# Altium integrated library Altera MAX 7000AE.IntLib: 310 symbols (part 13 of 22)
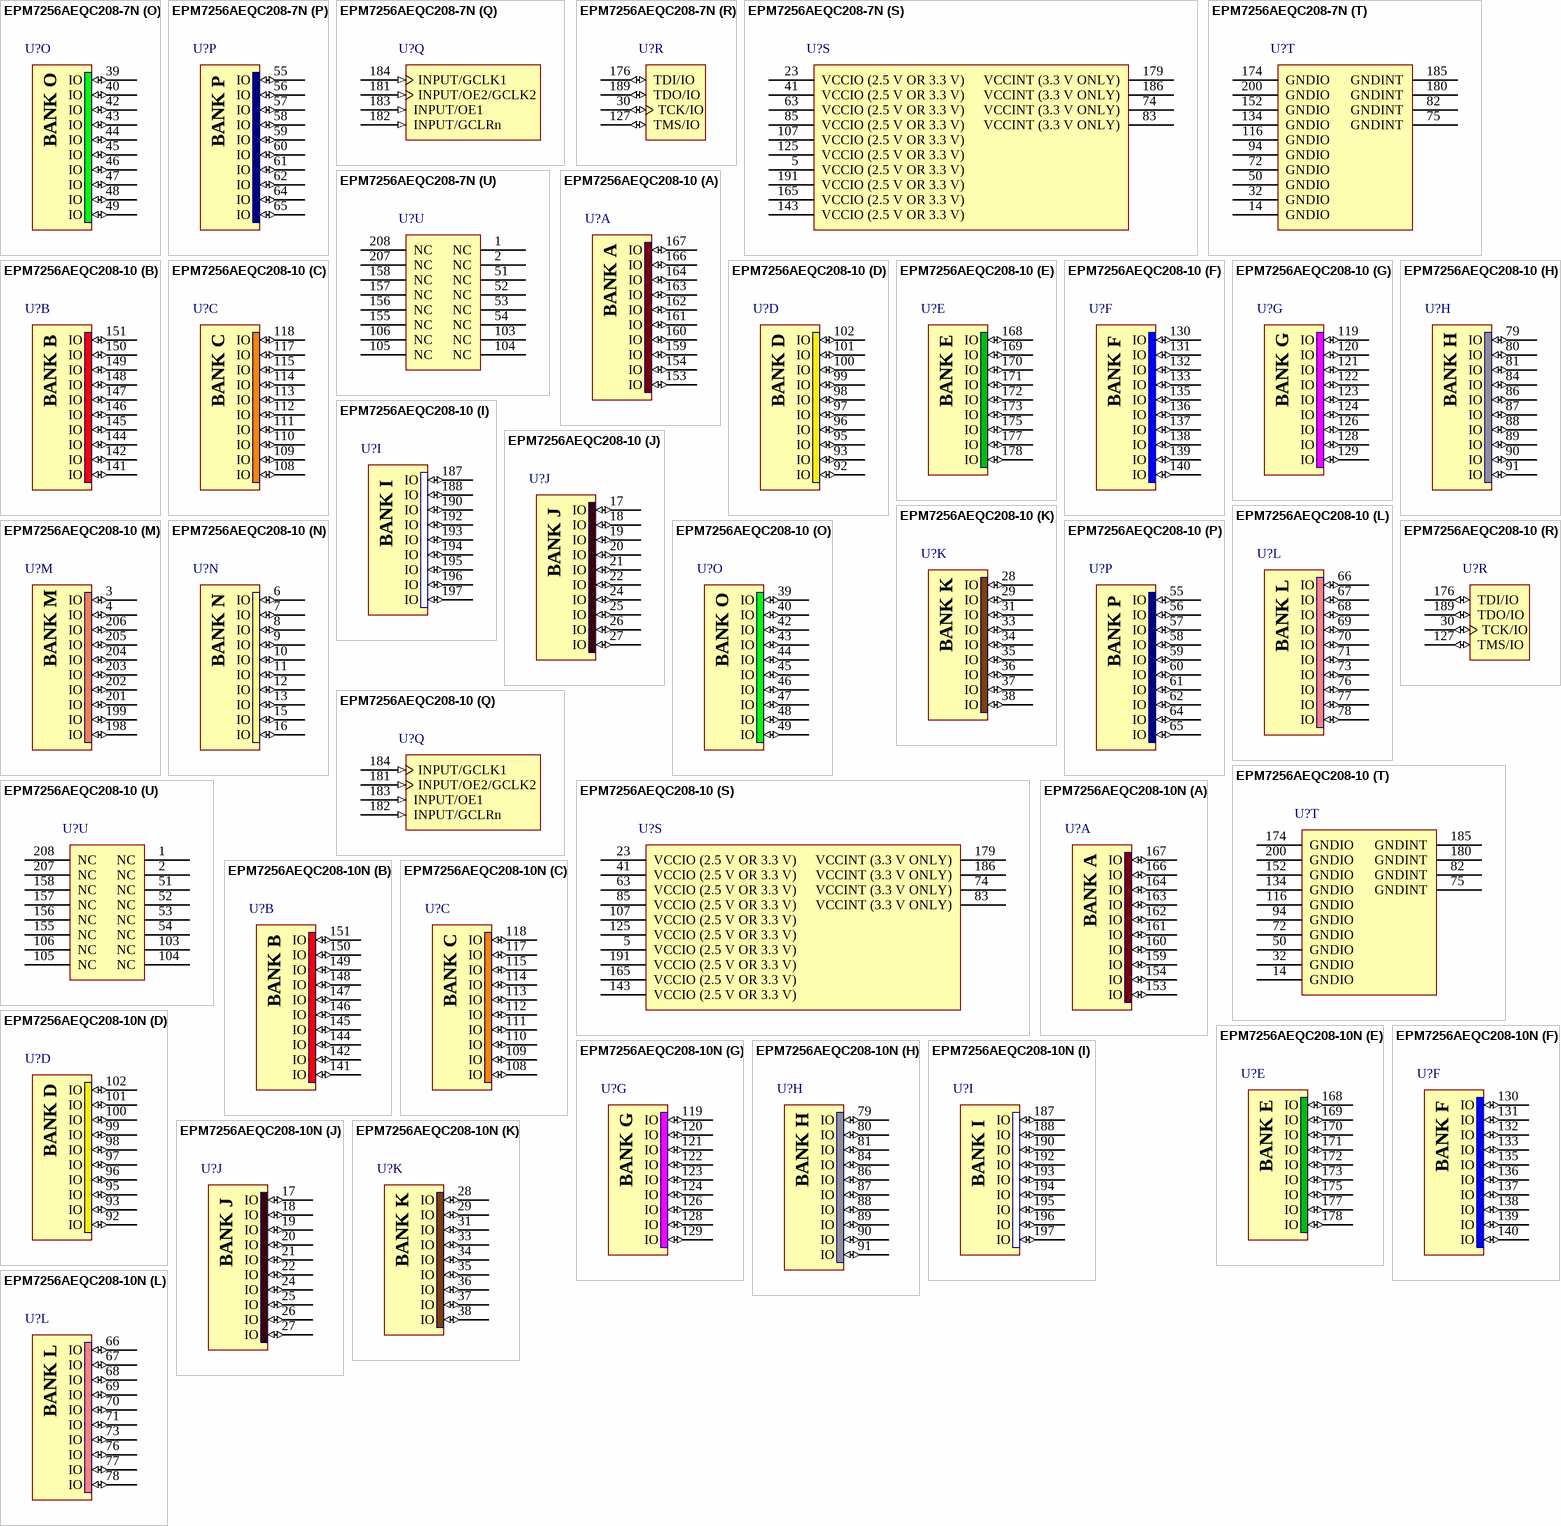
[diagram p133: symbols EPM7256AEQC208-7N to EPM7256AEQC208-10N]

## EPM7256AEQC208-10
designator U?
MAX 7000AE 3.3V CPLD, 256 Macrocells, 208-Pin PQFP, Speed Grade 10, Commercial Grade; Published: 23-Sep-2002; LatestRevisionDate: 13-Apr-2006; LatestRevisionNote: IPC-7351 Footprint Added.; DatasheetVersion: ver4.5, Sep-2003; PackageVersion: ver14.3, Jul-2006; PackageReference: PQFP208; Publisher: Altium Limited; PackageDescription: 208-Pin Plastic Quad Flat Pack (PQFP208); Code_JEDEC: MS-029-FA-1; ComponentLink1Description: Manufacturer Link; ComponentLink1URL: http://www.altera.com/products/devices/max7k/m7k-index.html; ComponentLink2Description: Datasheet; ComponentLink2URL: http://www.altera.com/literature/ds/m7000a.pdf; ComponentLink3Description: Packaging Specification; ComponentLink3URL: http://www.altera.com/literature/ds/dspkg.pdf
footprint PQFP208_N (Shrink QFP, 208-Leads, Body 28x28mm, Pitch 0.5mm, IPC Medium Density)
footprint PQFP208_L (Shrink QFP, 208-Leads, Body 28x28mm, Pitch 0.5mm, IPC High Density)
footprint PQFP208_M (Shrink QFP, 208-Leads, Body 28x28mm, Pitch 0.5mm, IPC Low Density)
3D model EPM7256AE-PQFP208 (208-Pin Plastic Quad Flat Pack (PQFP208))
signal-integrity model max7kae (MAX 7000AE)
part A pins: 153 IO (io), 154 IO (io), 159 IO (io), 160 IO (io), 161 IO (io), 162 IO (io), 163 IO (io), 164 IO (io), 166 IO (io), 167 IO (io)
part B pins: 141 IO (io), 142 IO (io), 144 IO (io), 145 IO (io), 146 IO (io), 147 IO (io), 148 IO (io), 149 IO (io), 150 IO (io), 151 IO (io)
part C pins: 108 IO (io), 109 IO (io), 110 IO (io), 111 IO (io), 112 IO (io), 113 IO (io), 114 IO (io), 115 IO (io), 117 IO (io), 118 IO (io)
part D pins: 92 IO (io), 93 IO (io), 95 IO (io), 96 IO (io), 97 IO (io), 98 IO (io), 99 IO (io), 100 IO (io), 101 IO (io), 102 IO (io)
part E pins: 168 IO (io), 169 IO (io), 170 IO (io), 171 IO (io), 172 IO (io), 173 IO (io), 175 IO (io), 177 IO (io), 178 IO (io)
part F pins: 130 IO (io), 131 IO (io), 132 IO (io), 133 IO (io), 135 IO (io), 136 IO (io), 137 IO (io), 138 IO (io), 139 IO (io), 140 IO (io)
part G pins: 119 IO (io), 120 IO (io), 121 IO (io), 122 IO (io), 123 IO (io), 124 IO (io), 126 IO (io), 128 IO (io), 129 IO (io)
part H pins: 79 IO (io), 80 IO (io), 81 IO (io), 84 IO (io), 86 IO (io), 87 IO (io), 88 IO (io), 89 IO (io), 90 IO (io), 91 IO (io)
part I pins: 187 IO (io), 188 IO (io), 190 IO (io), 192 IO (io), 193 IO (io), 194 IO (io), 195 IO (io), 196 IO (io), 197 IO (io)
part J pins: 17 IO (io), 18 IO (io), 19 IO (io), 20 IO (io), 21 IO (io), 22 IO (io), 24 IO (io), 25 IO (io), 26 IO (io), 27 IO (io)
part K pins: 28 IO (io), 29 IO (io), 31 IO (io), 33 IO (io), 34 IO (io), 35 IO (io), 36 IO (io), 37 IO (io), 38 IO (io)
part L pins: 66 IO (io), 67 IO (io), 68 IO (io), 69 IO (io), 70 IO (io), 71 IO (io), 73 IO (io), 76 IO (io), 77 IO (io), 78 IO (io)
part M pins: 3 IO (io), 4 IO (io), 198 IO (io), 199 IO (io), 201 IO (io), 202 IO (io), 203 IO (io), 204 IO (io), 205 IO (io), 206 IO (io)
part N pins: 6 IO (io), 7 IO (io), 8 IO (io), 9 IO (io), 10 IO (io), 11 IO (io), 12 IO (io), 13 IO (io), 15 IO (io), 16 IO (io)
part O pins: 39 IO (io), 40 IO (io), 42 IO (io), 43 IO (io), 44 IO (io), 45 IO (io), 46 IO (io), 47 IO (io), 48 IO (io), 49 IO (io)
part P pins: 55 IO (io), 56 IO (io), 57 IO (io), 58 IO (io), 59 IO (io), 60 IO (io), 61 IO (io), 62 IO (io), 64 IO (io), 65 IO (io)
part Q pins: 181 INPUT/OE2/GCLK2 (in), 182 INPUT/GCLRn (in), 183 INPUT/OE1 (in), 184 INPUT/GCLK1 (in)
part R pins: 30 TCK/IO (io), 127 TMS/IO (io), 176 TDI/IO (io), 189 TDO/IO (io)
part S pins: 5 VCCIO (2.5 V OR 3.3 V) (power), 23 VCCIO (2.5 V OR 3.3 V) (power), 41 VCCIO (2.5 V OR 3.3 V) (power), 63 VCCIO (2.5 V OR 3.3 V) (power), 74 VCCINT (3.3 V ONLY) (power), 83 VCCINT (3.3 V ONLY) (power), 85 VCCIO (2.5 V OR 3.3 V) (power), 107 VCCIO (2.5 V OR 3.3 V) (power), 125 VCCIO (2.5 V OR 3.3 V) (power), 143 VCCIO (2.5 V OR 3.3 V) (power), 165 VCCIO (2.5 V OR 3.3 V) (power), 179 VCCINT (3.3 V ONLY) (power), 186 VCCINT (3.3 V ONLY) (power), 191 VCCIO (2.5 V OR 3.3 V) (power)
part T pins: 14 GNDIO (power), 32 GNDIO (power), 50 GNDIO (power), 72 GNDIO (power), 75 GNDINT (power), 82 GNDINT (power), 94 GNDIO (power), 116 GNDIO (power), 134 GNDIO (power), 152 GNDIO (power), 174 GNDIO (power), 180 GNDINT (power), 185 GNDINT (power), 200 GNDIO (power)
part U pins: 1 NC, 2 NC, 51 NC, 52 NC, 53 NC, 54 NC, 103 NC, 104 NC, 105 NC, 106 NC, 155 NC, 156 NC, 157 NC, 158 NC, 207 NC, 208 NC
part A text: BANK A
part B text: BANK B
part C text: BANK C
part D text: BANK D
part E text: BANK E
part F text: BANK F
part G text: BANK G
part H text: BANK H
part I text: BANK I
part J text: BANK J
part K text: BANK K
part L text: BANK L
part M text: BANK M
part N text: BANK N
part O text: BANK O
part P text: BANK P

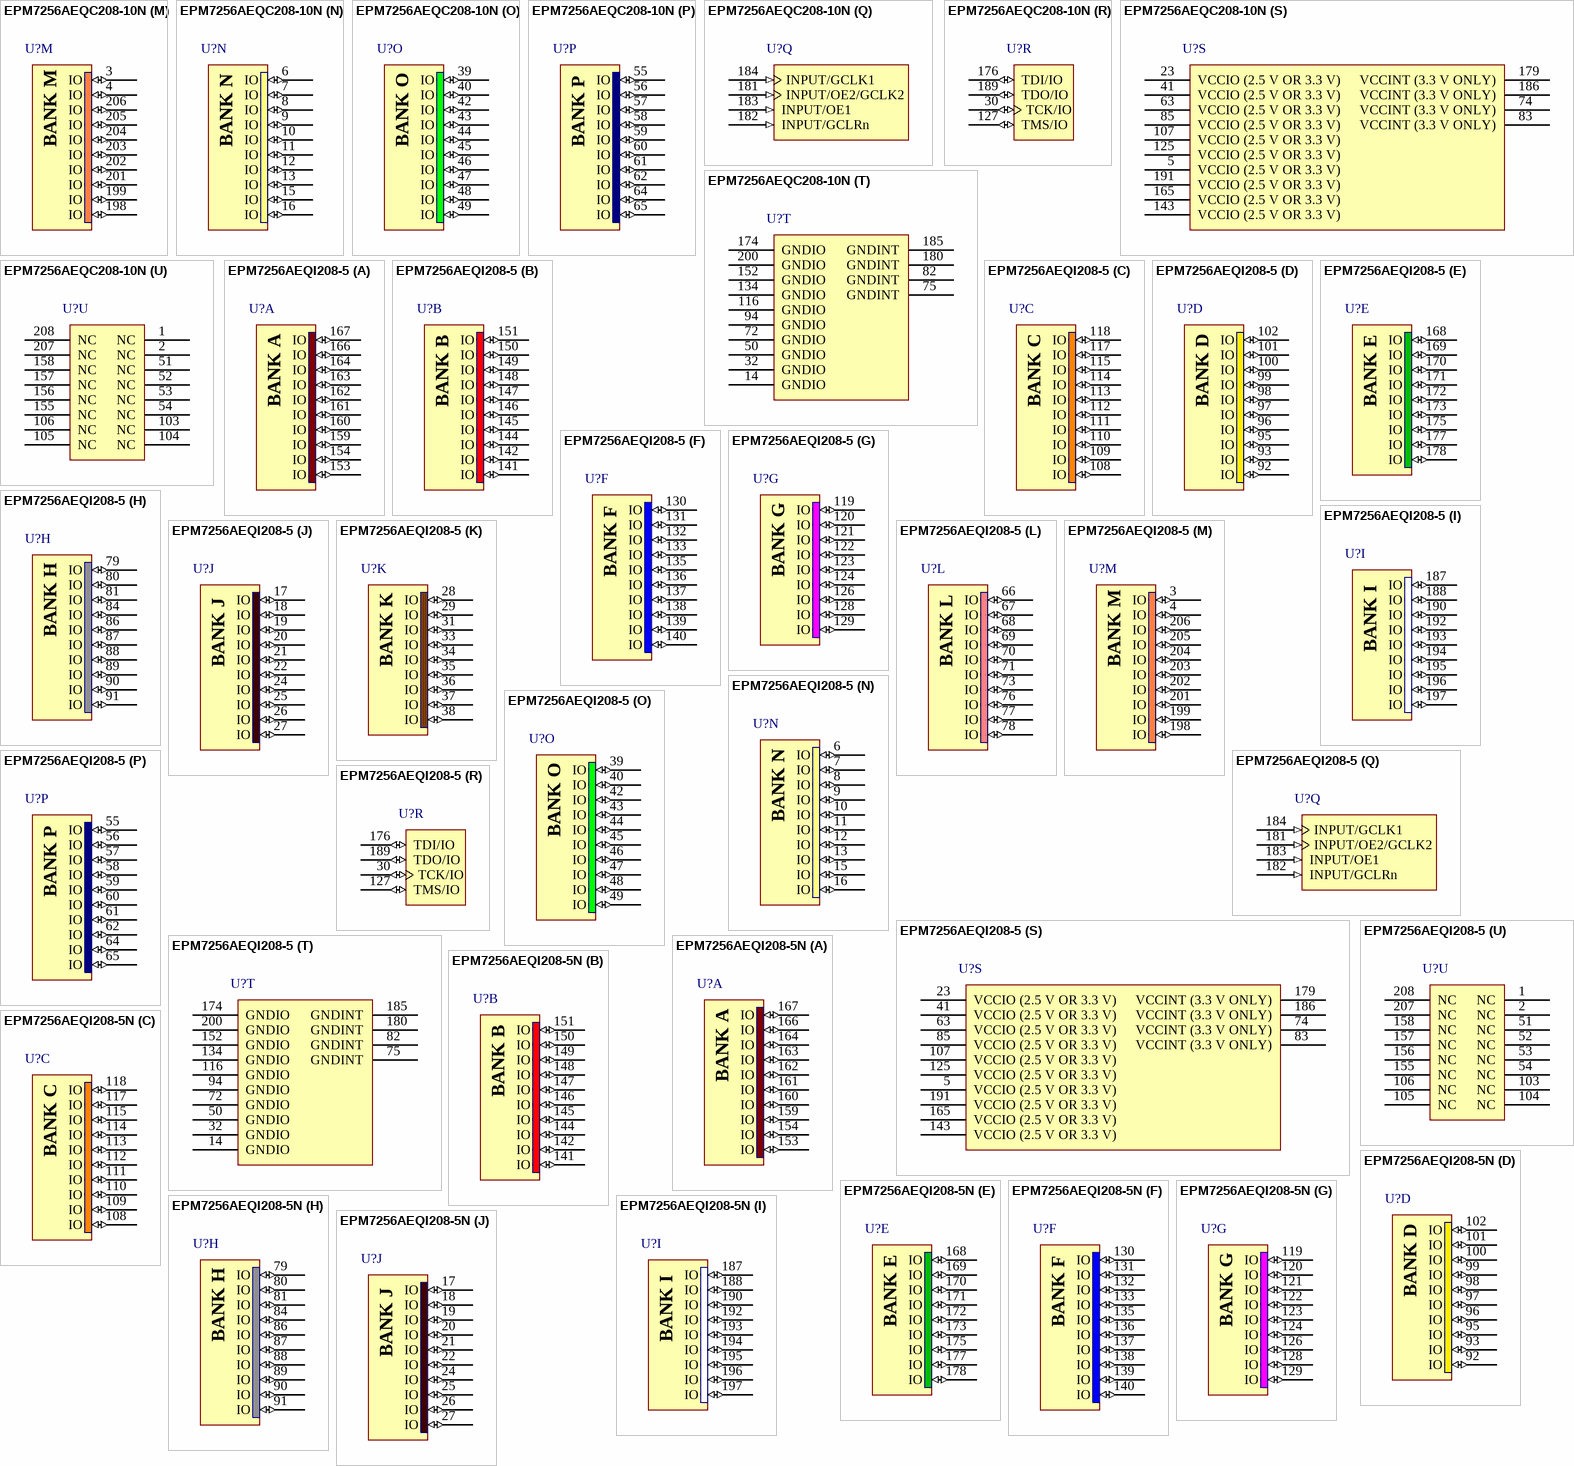
[diagram p63: symbols EPM7256AEQC208-10N to EPM7256AEQI208-5N]

## EPM7256AEQC208-10N
designator U?
MAX 7000AE 3.3V CPLD, 256 Macrocells, 208-Pin PQFP, Speed Grade 10, Commercial Grade, Pb-Free; Published: 4-Mar-2005; LatestRevisionDate: 13-Apr-2006; LatestRevisionNote: IPC-7351 Footprint Added.; DatasheetVersion: ver4.5, Sep-2003; PackageVersion: ver14.3, Jul-2006; PackageReference: PQFP208; Publisher: Altium Limited; PackageDescription: 208-Pin Plastic Quad Flat Pack (PQFP208); Code_JEDEC: MS-029-FA-1; ComponentLink1Description: Manufacturer Link; ComponentLink1URL: http://www.altera.com/products/devices/max7k/m7k-index.html; ComponentLink2Description: Datasheet; ComponentLink2URL: http://www.altera.com/literature/ds/m7000a.pdf; ComponentLink3Description: Packaging Specification; ComponentLink3URL: http://www.altera.com/literature/ds/dspkg.pdf
footprint PQFP208_N (Shrink QFP, 208-Leads, Body 28x28mm, Pitch 0.5mm, IPC Medium Density)
footprint PQFP208_L (Shrink QFP, 208-Leads, Body 28x28mm, Pitch 0.5mm, IPC High Density)
footprint PQFP208_M (Shrink QFP, 208-Leads, Body 28x28mm, Pitch 0.5mm, IPC Low Density)
3D model EPM7256AE-PQFP208 (208-Pin Plastic Quad Flat Pack (PQFP208))
signal-integrity model max7kae (MAX 7000AE)
part A pins: 153 IO (io), 154 IO (io), 159 IO (io), 160 IO (io), 161 IO (io), 162 IO (io), 163 IO (io), 164 IO (io), 166 IO (io), 167 IO (io)
part B pins: 141 IO (io), 142 IO (io), 144 IO (io), 145 IO (io), 146 IO (io), 147 IO (io), 148 IO (io), 149 IO (io), 150 IO (io), 151 IO (io)
part C pins: 108 IO (io), 109 IO (io), 110 IO (io), 111 IO (io), 112 IO (io), 113 IO (io), 114 IO (io), 115 IO (io), 117 IO (io), 118 IO (io)
part D pins: 92 IO (io), 93 IO (io), 95 IO (io), 96 IO (io), 97 IO (io), 98 IO (io), 99 IO (io), 100 IO (io), 101 IO (io), 102 IO (io)
part E pins: 168 IO (io), 169 IO (io), 170 IO (io), 171 IO (io), 172 IO (io), 173 IO (io), 175 IO (io), 177 IO (io), 178 IO (io)
part F pins: 130 IO (io), 131 IO (io), 132 IO (io), 133 IO (io), 135 IO (io), 136 IO (io), 137 IO (io), 138 IO (io), 139 IO (io), 140 IO (io)
part G pins: 119 IO (io), 120 IO (io), 121 IO (io), 122 IO (io), 123 IO (io), 124 IO (io), 126 IO (io), 128 IO (io), 129 IO (io)
part H pins: 79 IO (io), 80 IO (io), 81 IO (io), 84 IO (io), 86 IO (io), 87 IO (io), 88 IO (io), 89 IO (io), 90 IO (io), 91 IO (io)
part I pins: 187 IO (io), 188 IO (io), 190 IO (io), 192 IO (io), 193 IO (io), 194 IO (io), 195 IO (io), 196 IO (io), 197 IO (io)
part J pins: 17 IO (io), 18 IO (io), 19 IO (io), 20 IO (io), 21 IO (io), 22 IO (io), 24 IO (io), 25 IO (io), 26 IO (io), 27 IO (io)
part K pins: 28 IO (io), 29 IO (io), 31 IO (io), 33 IO (io), 34 IO (io), 35 IO (io), 36 IO (io), 37 IO (io), 38 IO (io)
part L pins: 66 IO (io), 67 IO (io), 68 IO (io), 69 IO (io), 70 IO (io), 71 IO (io), 73 IO (io), 76 IO (io), 77 IO (io), 78 IO (io)
part M pins: 3 IO (io), 4 IO (io), 198 IO (io), 199 IO (io), 201 IO (io), 202 IO (io), 203 IO (io), 204 IO (io), 205 IO (io), 206 IO (io)
part N pins: 6 IO (io), 7 IO (io), 8 IO (io), 9 IO (io), 10 IO (io), 11 IO (io), 12 IO (io), 13 IO (io), 15 IO (io), 16 IO (io)
part O pins: 39 IO (io), 40 IO (io), 42 IO (io), 43 IO (io), 44 IO (io), 45 IO (io), 46 IO (io), 47 IO (io), 48 IO (io), 49 IO (io)
part P pins: 55 IO (io), 56 IO (io), 57 IO (io), 58 IO (io), 59 IO (io), 60 IO (io), 61 IO (io), 62 IO (io), 64 IO (io), 65 IO (io)
part Q pins: 181 INPUT/OE2/GCLK2 (in), 182 INPUT/GCLRn (in), 183 INPUT/OE1 (in), 184 INPUT/GCLK1 (in)
part R pins: 30 TCK/IO (io), 127 TMS/IO (io), 176 TDI/IO (io), 189 TDO/IO (io)
part S pins: 5 VCCIO (2.5 V OR 3.3 V) (power), 23 VCCIO (2.5 V OR 3.3 V) (power), 41 VCCIO (2.5 V OR 3.3 V) (power), 63 VCCIO (2.5 V OR 3.3 V) (power), 74 VCCINT (3.3 V ONLY) (power), 83 VCCINT (3.3 V ONLY) (power), 85 VCCIO (2.5 V OR 3.3 V) (power), 107 VCCIO (2.5 V OR 3.3 V) (power), 125 VCCIO (2.5 V OR 3.3 V) (power), 143 VCCIO (2.5 V OR 3.3 V) (power), 165 VCCIO (2.5 V OR 3.3 V) (power), 179 VCCINT (3.3 V ONLY) (power), 186 VCCINT (3.3 V ONLY) (power), 191 VCCIO (2.5 V OR 3.3 V) (power)
part T pins: 14 GNDIO (power), 32 GNDIO (power), 50 GNDIO (power), 72 GNDIO (power), 75 GNDINT (power), 82 GNDINT (power), 94 GNDIO (power), 116 GNDIO (power), 134 GNDIO (power), 152 GNDIO (power), 174 GNDIO (power), 180 GNDINT (power), 185 GNDINT (power), 200 GNDIO (power)
part U pins: 1 NC, 2 NC, 51 NC, 52 NC, 53 NC, 54 NC, 103 NC, 104 NC, 105 NC, 106 NC, 155 NC, 156 NC, 157 NC, 158 NC, 207 NC, 208 NC
part A text: BANK A
part B text: BANK B
part C text: BANK C
part D text: BANK D
part E text: BANK E
part F text: BANK F
part G text: BANK G
part H text: BANK H
part I text: BANK I
part J text: BANK J
part K text: BANK K
part L text: BANK L
part M text: BANK M
part N text: BANK N
part O text: BANK O
part P text: BANK P

## EPM7256AEQI208-5
designator U?
MAX 7000AE 3.3V CPLD, 256 Macrocells, 208-Pin PQFP, Speed Grade 5, Industrial Grade; Published: 17-Sep-2003; LatestRevisionDate: 13-Apr-2006; LatestRevisionNote: IPC-7351 Footprint Added.; DatasheetVersion: ver4.5, Sep-2003; PackageVersion: ver14.3, Jul-2006; PackageReference: PQFP208; Publisher: Altium Limited; PackageDescription: 208-Pin Plastic Quad Flat Pack (PQFP208); Code_JEDEC: MS-029-FA-1; ComponentLink1Description: Manufacturer Link; ComponentLink1URL: http://www.altera.com/products/devices/max7k/m7k-index.html; ComponentLink2Description: Datasheet; ComponentLink2URL: http://www.altera.com/literature/ds/m7000a.pdf; ComponentLink3Description: Packaging Specification; ComponentLink3URL: http://www.altera.com/literature/ds/dspkg.pdf
footprint PQFP208_N (Shrink QFP, 208-Leads, Body 28x28mm, Pitch 0.5mm, IPC Medium Density)
footprint PQFP208_L (Shrink QFP, 208-Leads, Body 28x28mm, Pitch 0.5mm, IPC High Density)
footprint PQFP208_M (Shrink QFP, 208-Leads, Body 28x28mm, Pitch 0.5mm, IPC Low Density)
3D model EPM7256AE-PQFP208 (208-Pin Plastic Quad Flat Pack (PQFP208))
signal-integrity model max7kae (MAX 7000AE)
part A pins: 153 IO (io), 154 IO (io), 159 IO (io), 160 IO (io), 161 IO (io), 162 IO (io), 163 IO (io), 164 IO (io), 166 IO (io), 167 IO (io)
part B pins: 141 IO (io), 142 IO (io), 144 IO (io), 145 IO (io), 146 IO (io), 147 IO (io), 148 IO (io), 149 IO (io), 150 IO (io), 151 IO (io)
part C pins: 108 IO (io), 109 IO (io), 110 IO (io), 111 IO (io), 112 IO (io), 113 IO (io), 114 IO (io), 115 IO (io), 117 IO (io), 118 IO (io)
part D pins: 92 IO (io), 93 IO (io), 95 IO (io), 96 IO (io), 97 IO (io), 98 IO (io), 99 IO (io), 100 IO (io), 101 IO (io), 102 IO (io)
part E pins: 168 IO (io), 169 IO (io), 170 IO (io), 171 IO (io), 172 IO (io), 173 IO (io), 175 IO (io), 177 IO (io), 178 IO (io)
part F pins: 130 IO (io), 131 IO (io), 132 IO (io), 133 IO (io), 135 IO (io), 136 IO (io), 137 IO (io), 138 IO (io), 139 IO (io), 140 IO (io)
part G pins: 119 IO (io), 120 IO (io), 121 IO (io), 122 IO (io), 123 IO (io), 124 IO (io), 126 IO (io), 128 IO (io), 129 IO (io)
part H pins: 79 IO (io), 80 IO (io), 81 IO (io), 84 IO (io), 86 IO (io), 87 IO (io), 88 IO (io), 89 IO (io), 90 IO (io), 91 IO (io)
part I pins: 187 IO (io), 188 IO (io), 190 IO (io), 192 IO (io), 193 IO (io), 194 IO (io), 195 IO (io), 196 IO (io), 197 IO (io)
part J pins: 17 IO (io), 18 IO (io), 19 IO (io), 20 IO (io), 21 IO (io), 22 IO (io), 24 IO (io), 25 IO (io), 26 IO (io), 27 IO (io)
part K pins: 28 IO (io), 29 IO (io), 31 IO (io), 33 IO (io), 34 IO (io), 35 IO (io), 36 IO (io), 37 IO (io), 38 IO (io)
part L pins: 66 IO (io), 67 IO (io), 68 IO (io), 69 IO (io), 70 IO (io), 71 IO (io), 73 IO (io), 76 IO (io), 77 IO (io), 78 IO (io)
part M pins: 3 IO (io), 4 IO (io), 198 IO (io), 199 IO (io), 201 IO (io), 202 IO (io), 203 IO (io), 204 IO (io), 205 IO (io), 206 IO (io)
part N pins: 6 IO (io), 7 IO (io), 8 IO (io), 9 IO (io), 10 IO (io), 11 IO (io), 12 IO (io), 13 IO (io), 15 IO (io), 16 IO (io)
part O pins: 39 IO (io), 40 IO (io), 42 IO (io), 43 IO (io), 44 IO (io), 45 IO (io), 46 IO (io), 47 IO (io), 48 IO (io), 49 IO (io)
part P pins: 55 IO (io), 56 IO (io), 57 IO (io), 58 IO (io), 59 IO (io), 60 IO (io), 61 IO (io), 62 IO (io), 64 IO (io), 65 IO (io)
part Q pins: 181 INPUT/OE2/GCLK2 (in), 182 INPUT/GCLRn (in), 183 INPUT/OE1 (in), 184 INPUT/GCLK1 (in)
part R pins: 30 TCK/IO (io), 127 TMS/IO (io), 176 TDI/IO (io), 189 TDO/IO (io)
part S pins: 5 VCCIO (2.5 V OR 3.3 V) (power), 23 VCCIO (2.5 V OR 3.3 V) (power), 41 VCCIO (2.5 V OR 3.3 V) (power), 63 VCCIO (2.5 V OR 3.3 V) (power), 74 VCCINT (3.3 V ONLY) (power), 83 VCCINT (3.3 V ONLY) (power), 85 VCCIO (2.5 V OR 3.3 V) (power), 107 VCCIO (2.5 V OR 3.3 V) (power), 125 VCCIO (2.5 V OR 3.3 V) (power), 143 VCCIO (2.5 V OR 3.3 V) (power), 165 VCCIO (2.5 V OR 3.3 V) (power), 179 VCCINT (3.3 V ONLY) (power), 186 VCCINT (3.3 V ONLY) (power), 191 VCCIO (2.5 V OR 3.3 V) (power)
part T pins: 14 GNDIO (power), 32 GNDIO (power), 50 GNDIO (power), 72 GNDIO (power), 75 GNDINT (power), 82 GNDINT (power), 94 GNDIO (power), 116 GNDIO (power), 134 GNDIO (power), 152 GNDIO (power), 174 GNDIO (power), 180 GNDINT (power), 185 GNDINT (power), 200 GNDIO (power)
part U pins: 1 NC, 2 NC, 51 NC, 52 NC, 53 NC, 54 NC, 103 NC, 104 NC, 105 NC, 106 NC, 155 NC, 156 NC, 157 NC, 158 NC, 207 NC, 208 NC
part A text: BANK A
part B text: BANK B
part C text: BANK C
part D text: BANK D
part E text: BANK E
part F text: BANK F
part G text: BANK G
part H text: BANK H
part I text: BANK I
part J text: BANK J
part K text: BANK K
part L text: BANK L
part M text: BANK M
part N text: BANK N
part O text: BANK O
part P text: BANK P

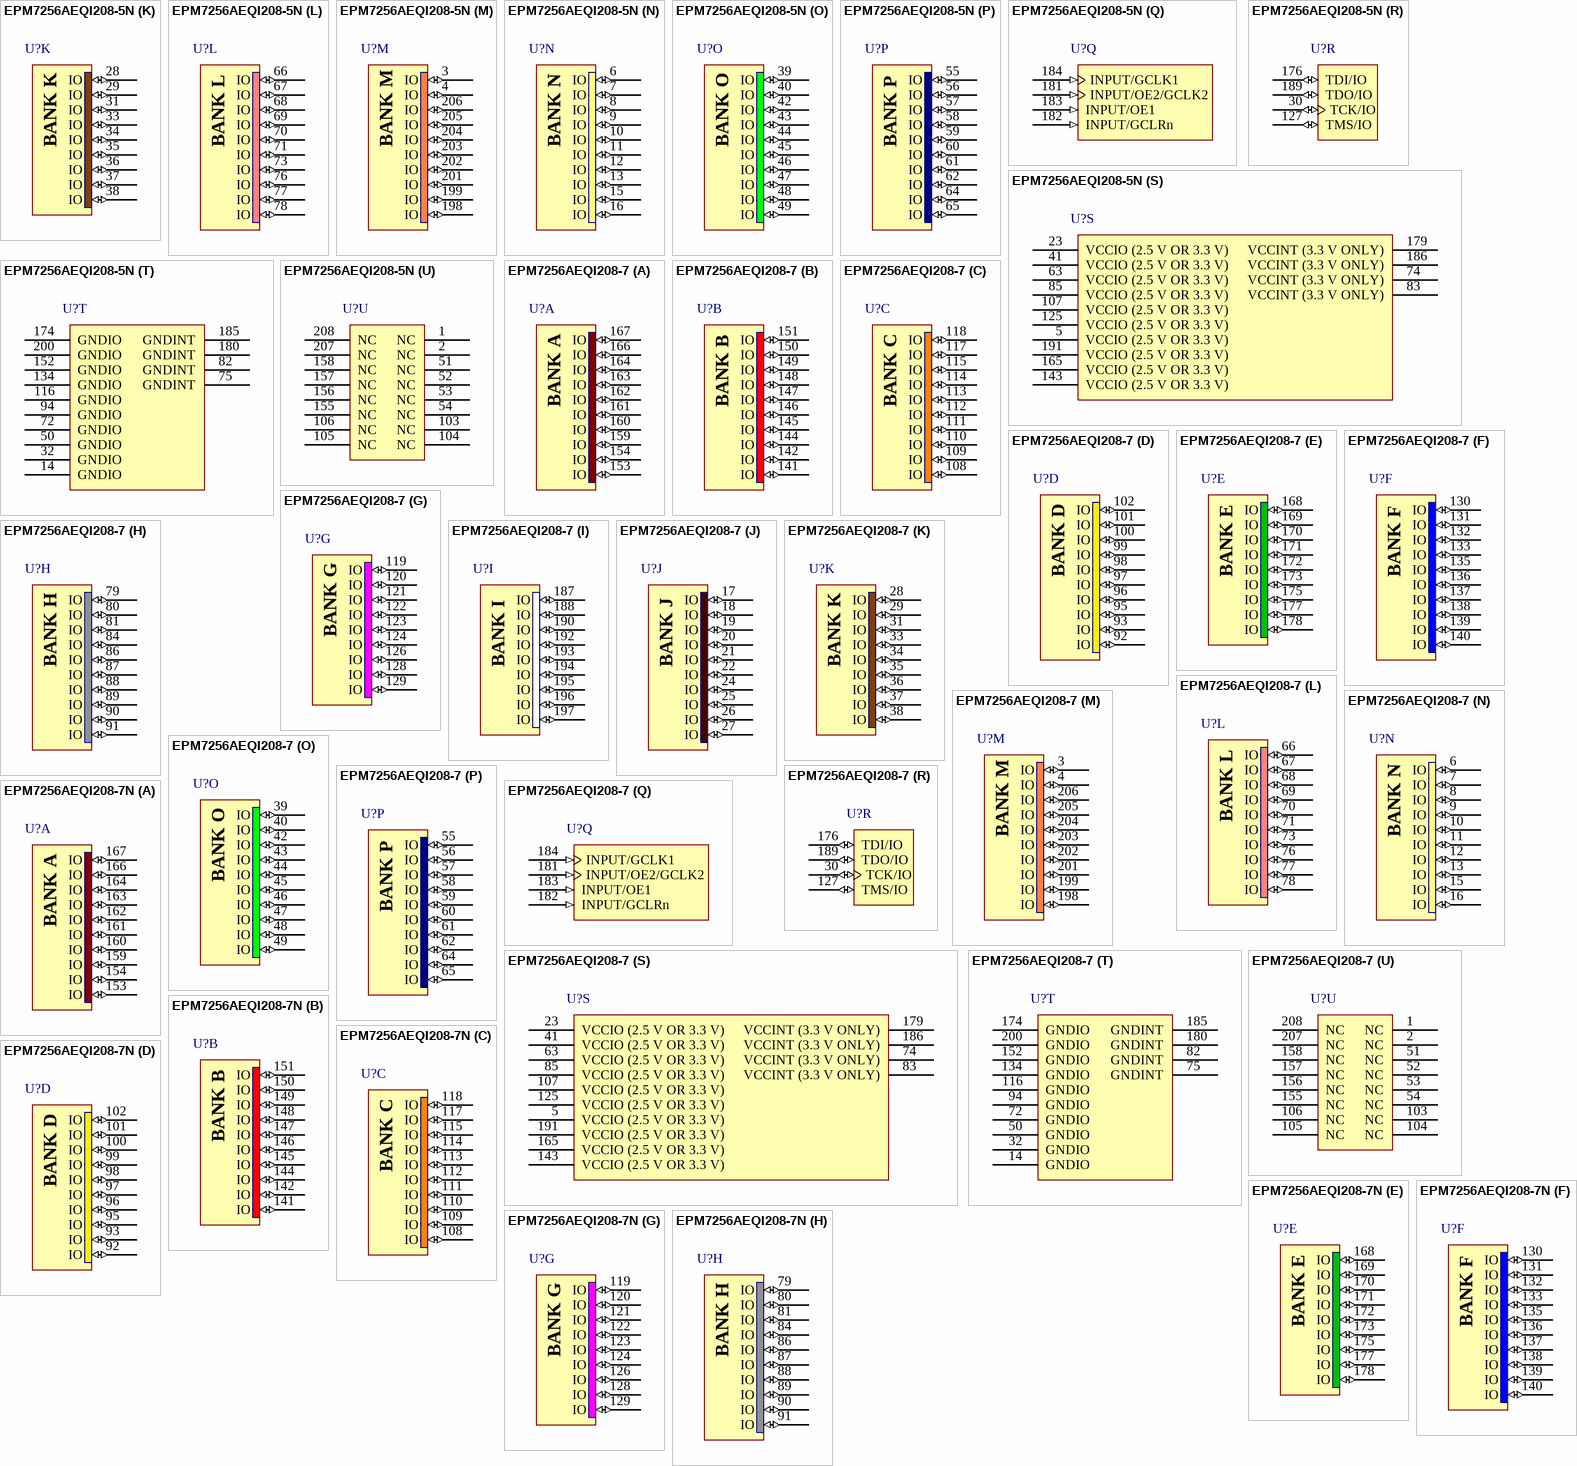
[diagram p64: symbols EPM7256AEQI208-5N to EPM7256AEQI208-7N]

## EPM7256AEQI208-5N
designator U?
MAX 7000AE 3.3V CPLD, 256 Macrocells, 208-Pin PQFP, Speed Grade 5, Industrial Grade, Pb-Free; Published: 18-Aug-2005; LatestRevisionDate: 13-Apr-2006; LatestRevisionNote: IPC-7351 Footprint Added.; DatasheetVersion: ver4.5, Sep-2003; PackageVersion: ver14.3, Jul-2006; PackageReference: PQFP208; Publisher: Altium Limited; PackageDescription: 208-Pin Plastic Quad Flat Pack (PQFP208); Code_JEDEC: MS-029-FA-1; ComponentLink1Description: Manufacturer Link; ComponentLink1URL: http://www.altera.com/products/devices/max7k/m7k-index.html; ComponentLink2Description: Datasheet; ComponentLink2URL: http://www.altera.com/literature/ds/m7000a.pdf; ComponentLink3Description: Packaging Specification; ComponentLink3URL: http://www.altera.com/literature/ds/dspkg.pdf
footprint PQFP208_N (Shrink QFP, 208-Leads, Body 28x28mm, Pitch 0.5mm, IPC Medium Density)
footprint PQFP208_L (Shrink QFP, 208-Leads, Body 28x28mm, Pitch 0.5mm, IPC High Density)
footprint PQFP208_M (Shrink QFP, 208-Leads, Body 28x28mm, Pitch 0.5mm, IPC Low Density)
3D model EPM7256AE-PQFP208 (208-Pin Plastic Quad Flat Pack (PQFP208))
signal-integrity model max7kae (MAX 7000AE)
part A pins: 153 IO (io), 154 IO (io), 159 IO (io), 160 IO (io), 161 IO (io), 162 IO (io), 163 IO (io), 164 IO (io), 166 IO (io), 167 IO (io)
part B pins: 141 IO (io), 142 IO (io), 144 IO (io), 145 IO (io), 146 IO (io), 147 IO (io), 148 IO (io), 149 IO (io), 150 IO (io), 151 IO (io)
part C pins: 108 IO (io), 109 IO (io), 110 IO (io), 111 IO (io), 112 IO (io), 113 IO (io), 114 IO (io), 115 IO (io), 117 IO (io), 118 IO (io)
part D pins: 92 IO (io), 93 IO (io), 95 IO (io), 96 IO (io), 97 IO (io), 98 IO (io), 99 IO (io), 100 IO (io), 101 IO (io), 102 IO (io)
part E pins: 168 IO (io), 169 IO (io), 170 IO (io), 171 IO (io), 172 IO (io), 173 IO (io), 175 IO (io), 177 IO (io), 178 IO (io)
part F pins: 130 IO (io), 131 IO (io), 132 IO (io), 133 IO (io), 135 IO (io), 136 IO (io), 137 IO (io), 138 IO (io), 139 IO (io), 140 IO (io)
part G pins: 119 IO (io), 120 IO (io), 121 IO (io), 122 IO (io), 123 IO (io), 124 IO (io), 126 IO (io), 128 IO (io), 129 IO (io)
part H pins: 79 IO (io), 80 IO (io), 81 IO (io), 84 IO (io), 86 IO (io), 87 IO (io), 88 IO (io), 89 IO (io), 90 IO (io), 91 IO (io)
part I pins: 187 IO (io), 188 IO (io), 190 IO (io), 192 IO (io), 193 IO (io), 194 IO (io), 195 IO (io), 196 IO (io), 197 IO (io)
part J pins: 17 IO (io), 18 IO (io), 19 IO (io), 20 IO (io), 21 IO (io), 22 IO (io), 24 IO (io), 25 IO (io), 26 IO (io), 27 IO (io)
part K pins: 28 IO (io), 29 IO (io), 31 IO (io), 33 IO (io), 34 IO (io), 35 IO (io), 36 IO (io), 37 IO (io), 38 IO (io)
part L pins: 66 IO (io), 67 IO (io), 68 IO (io), 69 IO (io), 70 IO (io), 71 IO (io), 73 IO (io), 76 IO (io), 77 IO (io), 78 IO (io)
part M pins: 3 IO (io), 4 IO (io), 198 IO (io), 199 IO (io), 201 IO (io), 202 IO (io), 203 IO (io), 204 IO (io), 205 IO (io), 206 IO (io)
part N pins: 6 IO (io), 7 IO (io), 8 IO (io), 9 IO (io), 10 IO (io), 11 IO (io), 12 IO (io), 13 IO (io), 15 IO (io), 16 IO (io)
part O pins: 39 IO (io), 40 IO (io), 42 IO (io), 43 IO (io), 44 IO (io), 45 IO (io), 46 IO (io), 47 IO (io), 48 IO (io), 49 IO (io)
part P pins: 55 IO (io), 56 IO (io), 57 IO (io), 58 IO (io), 59 IO (io), 60 IO (io), 61 IO (io), 62 IO (io), 64 IO (io), 65 IO (io)
part Q pins: 181 INPUT/OE2/GCLK2 (in), 182 INPUT/GCLRn (in), 183 INPUT/OE1 (in), 184 INPUT/GCLK1 (in)
part R pins: 30 TCK/IO (io), 127 TMS/IO (io), 176 TDI/IO (io), 189 TDO/IO (io)
part S pins: 5 VCCIO (2.5 V OR 3.3 V) (power), 23 VCCIO (2.5 V OR 3.3 V) (power), 41 VCCIO (2.5 V OR 3.3 V) (power), 63 VCCIO (2.5 V OR 3.3 V) (power), 74 VCCINT (3.3 V ONLY) (power), 83 VCCINT (3.3 V ONLY) (power), 85 VCCIO (2.5 V OR 3.3 V) (power), 107 VCCIO (2.5 V OR 3.3 V) (power), 125 VCCIO (2.5 V OR 3.3 V) (power), 143 VCCIO (2.5 V OR 3.3 V) (power), 165 VCCIO (2.5 V OR 3.3 V) (power), 179 VCCINT (3.3 V ONLY) (power), 186 VCCINT (3.3 V ONLY) (power), 191 VCCIO (2.5 V OR 3.3 V) (power)
part T pins: 14 GNDIO (power), 32 GNDIO (power), 50 GNDIO (power), 72 GNDIO (power), 75 GNDINT (power), 82 GNDINT (power), 94 GNDIO (power), 116 GNDIO (power), 134 GNDIO (power), 152 GNDIO (power), 174 GNDIO (power), 180 GNDINT (power), 185 GNDINT (power), 200 GNDIO (power)
part U pins: 1 NC, 2 NC, 51 NC, 52 NC, 53 NC, 54 NC, 103 NC, 104 NC, 105 NC, 106 NC, 155 NC, 156 NC, 157 NC, 158 NC, 207 NC, 208 NC
part A text: BANK A
part B text: BANK B
part C text: BANK C
part D text: BANK D
part E text: BANK E
part F text: BANK F
part G text: BANK G
part H text: BANK H
part I text: BANK I
part J text: BANK J
part K text: BANK K
part L text: BANK L
part M text: BANK M
part N text: BANK N
part O text: BANK O
part P text: BANK P

## EPM7256AEQI208-7
designator U?
MAX 7000AE 3.3V CPLD, 256 Macrocells, 208-Pin PQFP, Speed Grade 7, Industrial Grade; Published: 23-Sep-2002; LatestRevisionDate: 13-Apr-2006; LatestRevisionNote: IPC-7351 Footprint Added.; DatasheetVersion: ver4.5, Sep-2003; PackageVersion: ver14.3, Jul-2006; PackageReference: PQFP208; Publisher: Altium Limited; PackageDescription: 208-Pin Plastic Quad Flat Pack (PQFP208); Code_JEDEC: MS-029-FA-1; ComponentLink1Description: Manufacturer Link; ComponentLink1URL: http://www.altera.com/products/devices/max7k/m7k-index.html; ComponentLink2Description: Datasheet; ComponentLink2URL: http://www.altera.com/literature/ds/m7000a.pdf; ComponentLink3Description: Packaging Specification; ComponentLink3URL: http://www.altera.com/literature/ds/dspkg.pdf
footprint PQFP208_N (Shrink QFP, 208-Leads, Body 28x28mm, Pitch 0.5mm, IPC Medium Density)
footprint PQFP208_L (Shrink QFP, 208-Leads, Body 28x28mm, Pitch 0.5mm, IPC High Density)
footprint PQFP208_M (Shrink QFP, 208-Leads, Body 28x28mm, Pitch 0.5mm, IPC Low Density)
3D model EPM7256AE-PQFP208 (208-Pin Plastic Quad Flat Pack (PQFP208))
signal-integrity model max7kae (MAX 7000AE)
part A pins: 153 IO (io), 154 IO (io), 159 IO (io), 160 IO (io), 161 IO (io), 162 IO (io), 163 IO (io), 164 IO (io), 166 IO (io), 167 IO (io)
part B pins: 141 IO (io), 142 IO (io), 144 IO (io), 145 IO (io), 146 IO (io), 147 IO (io), 148 IO (io), 149 IO (io), 150 IO (io), 151 IO (io)
part C pins: 108 IO (io), 109 IO (io), 110 IO (io), 111 IO (io), 112 IO (io), 113 IO (io), 114 IO (io), 115 IO (io), 117 IO (io), 118 IO (io)
part D pins: 92 IO (io), 93 IO (io), 95 IO (io), 96 IO (io), 97 IO (io), 98 IO (io), 99 IO (io), 100 IO (io), 101 IO (io), 102 IO (io)
part E pins: 168 IO (io), 169 IO (io), 170 IO (io), 171 IO (io), 172 IO (io), 173 IO (io), 175 IO (io), 177 IO (io), 178 IO (io)
part F pins: 130 IO (io), 131 IO (io), 132 IO (io), 133 IO (io), 135 IO (io), 136 IO (io), 137 IO (io), 138 IO (io), 139 IO (io), 140 IO (io)
part G pins: 119 IO (io), 120 IO (io), 121 IO (io), 122 IO (io), 123 IO (io), 124 IO (io), 126 IO (io), 128 IO (io), 129 IO (io)
part H pins: 79 IO (io), 80 IO (io), 81 IO (io), 84 IO (io), 86 IO (io), 87 IO (io), 88 IO (io), 89 IO (io), 90 IO (io), 91 IO (io)
part I pins: 187 IO (io), 188 IO (io), 190 IO (io), 192 IO (io), 193 IO (io), 194 IO (io), 195 IO (io), 196 IO (io), 197 IO (io)
part J pins: 17 IO (io), 18 IO (io), 19 IO (io), 20 IO (io), 21 IO (io), 22 IO (io), 24 IO (io), 25 IO (io), 26 IO (io), 27 IO (io)
part K pins: 28 IO (io), 29 IO (io), 31 IO (io), 33 IO (io), 34 IO (io), 35 IO (io), 36 IO (io), 37 IO (io), 38 IO (io)
part L pins: 66 IO (io), 67 IO (io), 68 IO (io), 69 IO (io), 70 IO (io), 71 IO (io), 73 IO (io), 76 IO (io), 77 IO (io), 78 IO (io)
part M pins: 3 IO (io), 4 IO (io), 198 IO (io), 199 IO (io), 201 IO (io), 202 IO (io), 203 IO (io), 204 IO (io), 205 IO (io), 206 IO (io)
part N pins: 6 IO (io), 7 IO (io), 8 IO (io), 9 IO (io), 10 IO (io), 11 IO (io), 12 IO (io), 13 IO (io), 15 IO (io), 16 IO (io)
part O pins: 39 IO (io), 40 IO (io), 42 IO (io), 43 IO (io), 44 IO (io), 45 IO (io), 46 IO (io), 47 IO (io), 48 IO (io), 49 IO (io)
part P pins: 55 IO (io), 56 IO (io), 57 IO (io), 58 IO (io), 59 IO (io), 60 IO (io), 61 IO (io), 62 IO (io), 64 IO (io), 65 IO (io)
part Q pins: 181 INPUT/OE2/GCLK2 (in), 182 INPUT/GCLRn (in), 183 INPUT/OE1 (in), 184 INPUT/GCLK1 (in)
part R pins: 30 TCK/IO (io), 127 TMS/IO (io), 176 TDI/IO (io), 189 TDO/IO (io)
part S pins: 5 VCCIO (2.5 V OR 3.3 V) (power), 23 VCCIO (2.5 V OR 3.3 V) (power), 41 VCCIO (2.5 V OR 3.3 V) (power), 63 VCCIO (2.5 V OR 3.3 V) (power), 74 VCCINT (3.3 V ONLY) (power), 83 VCCINT (3.3 V ONLY) (power), 85 VCCIO (2.5 V OR 3.3 V) (power), 107 VCCIO (2.5 V OR 3.3 V) (power), 125 VCCIO (2.5 V OR 3.3 V) (power), 143 VCCIO (2.5 V OR 3.3 V) (power), 165 VCCIO (2.5 V OR 3.3 V) (power), 179 VCCINT (3.3 V ONLY) (power), 186 VCCINT (3.3 V ONLY) (power), 191 VCCIO (2.5 V OR 3.3 V) (power)
part T pins: 14 GNDIO (power), 32 GNDIO (power), 50 GNDIO (power), 72 GNDIO (power), 75 GNDINT (power), 82 GNDINT (power), 94 GNDIO (power), 116 GNDIO (power), 134 GNDIO (power), 152 GNDIO (power), 174 GNDIO (power), 180 GNDINT (power), 185 GNDINT (power), 200 GNDIO (power)
part U pins: 1 NC, 2 NC, 51 NC, 52 NC, 53 NC, 54 NC, 103 NC, 104 NC, 105 NC, 106 NC, 155 NC, 156 NC, 157 NC, 158 NC, 207 NC, 208 NC
part A text: BANK A
part B text: BANK B
part C text: BANK C
part D text: BANK D
part E text: BANK E
part F text: BANK F
part G text: BANK G
part H text: BANK H
part I text: BANK I
part J text: BANK J
part K text: BANK K
part L text: BANK L
part M text: BANK M
part N text: BANK N
part O text: BANK O
part P text: BANK P

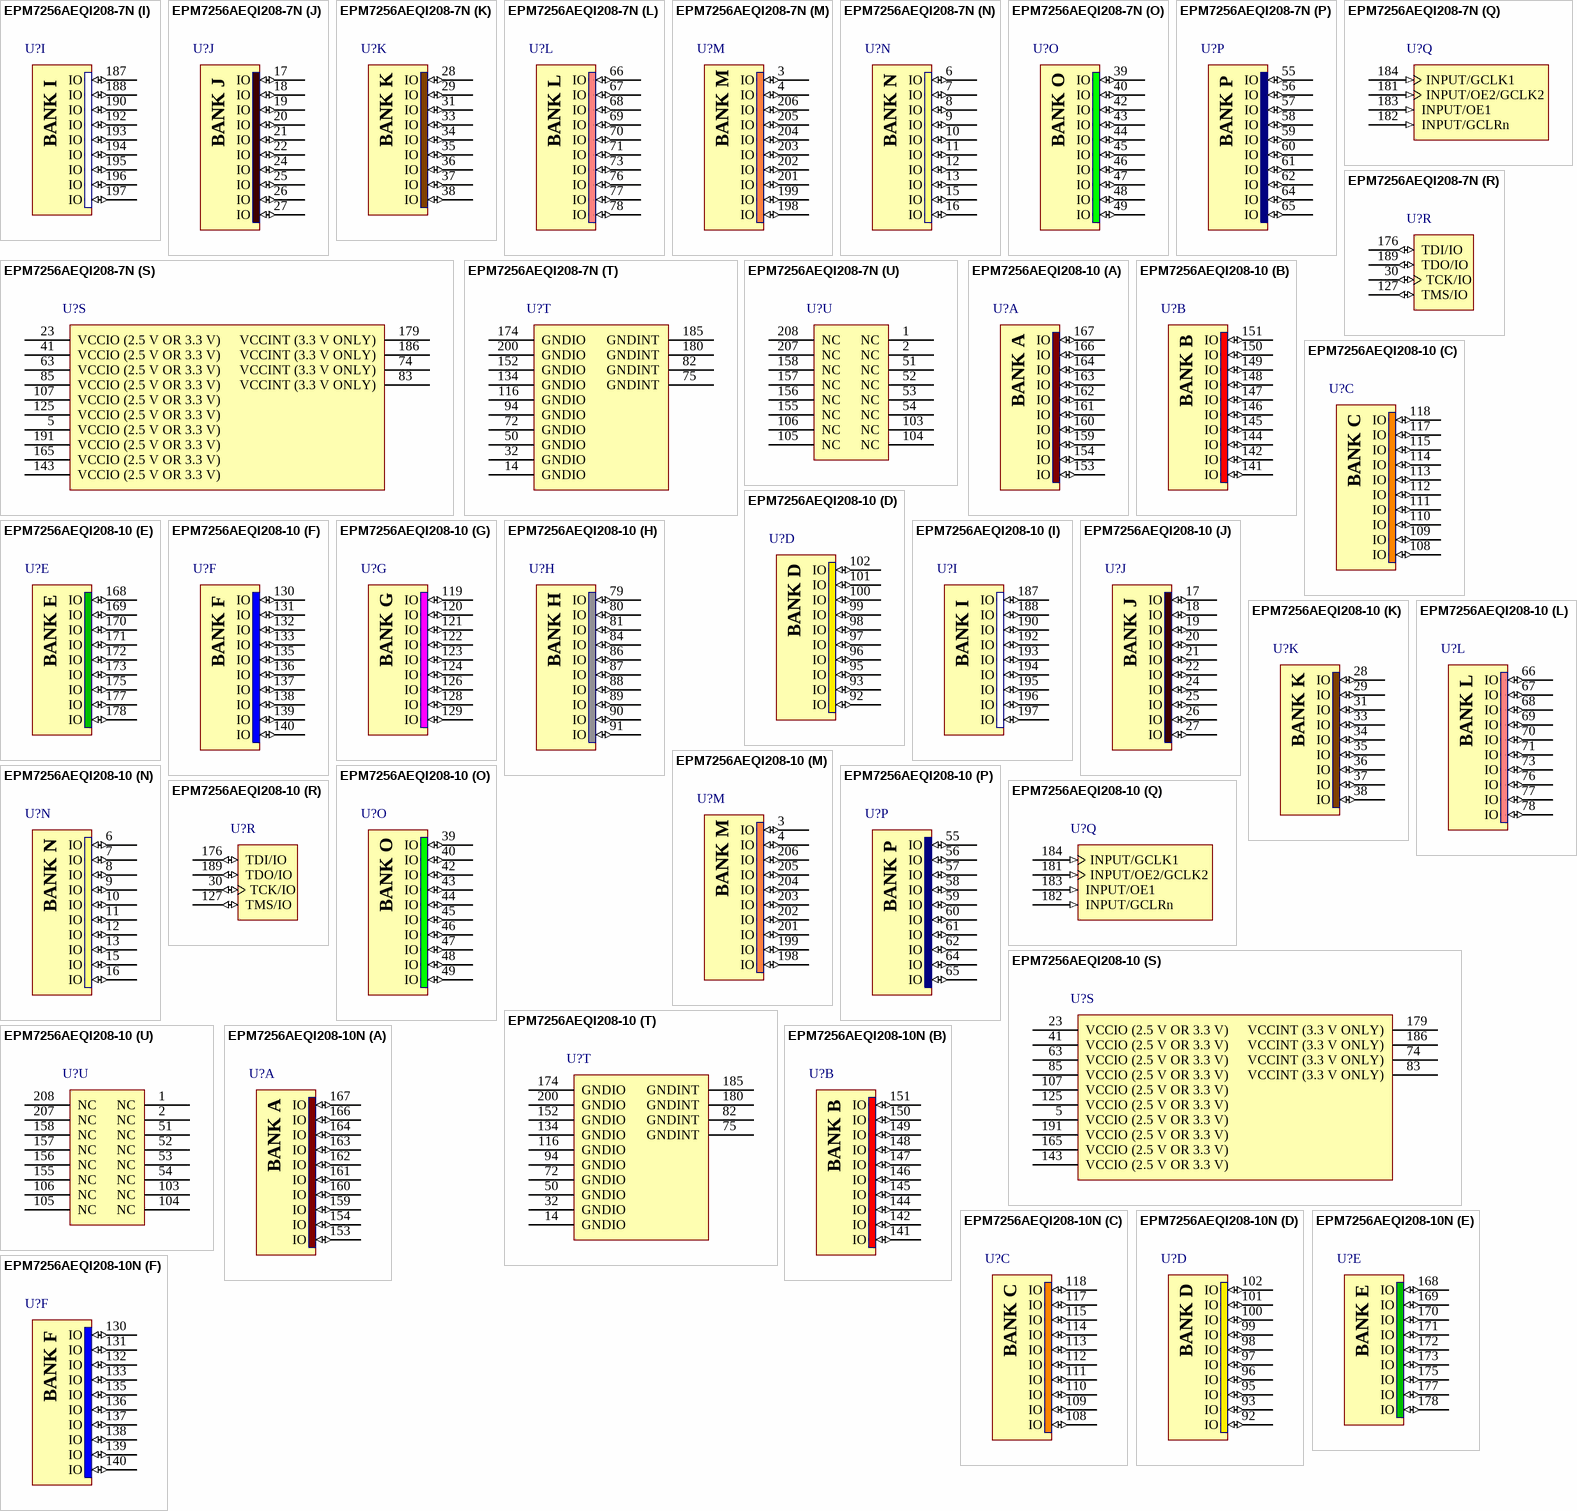
[diagram p65: symbols EPM7256AEQI208-7N to EPM7256AEQI208-10N]

## EPM7256AEQI208-7N
designator U?
MAX 7000AE 3.3V CPLD, 256 Macrocells, 208-Pin PQFP, Speed Grade 7, Industrial Grade, Pb-Free; Published: 18-Aug-2005; LatestRevisionDate: 13-Apr-2006; LatestRevisionNote: IPC-7351 Footprint Added.; DatasheetVersion: ver4.5, Sep-2003; PackageVersion: ver14.3, Jul-2006; PackageReference: PQFP208; Publisher: Altium Limited; PackageDescription: 208-Pin Plastic Quad Flat Pack (PQFP208); Code_JEDEC: MS-029-FA-1; ComponentLink1Description: Manufacturer Link; ComponentLink1URL: http://www.altera.com/products/devices/max7k/m7k-index.html; ComponentLink2Description: Datasheet; ComponentLink2URL: http://www.altera.com/literature/ds/m7000a.pdf; ComponentLink3Description: Packaging Specification; ComponentLink3URL: http://www.altera.com/literature/ds/dspkg.pdf
footprint PQFP208_N (Shrink QFP, 208-Leads, Body 28x28mm, Pitch 0.5mm, IPC Medium Density)
footprint PQFP208_L (Shrink QFP, 208-Leads, Body 28x28mm, Pitch 0.5mm, IPC High Density)
footprint PQFP208_M (Shrink QFP, 208-Leads, Body 28x28mm, Pitch 0.5mm, IPC Low Density)
3D model EPM7256AE-PQFP208 (208-Pin Plastic Quad Flat Pack (PQFP208))
signal-integrity model max7kae (MAX 7000AE)
part A pins: 153 IO (io), 154 IO (io), 159 IO (io), 160 IO (io), 161 IO (io), 162 IO (io), 163 IO (io), 164 IO (io), 166 IO (io), 167 IO (io)
part B pins: 141 IO (io), 142 IO (io), 144 IO (io), 145 IO (io), 146 IO (io), 147 IO (io), 148 IO (io), 149 IO (io), 150 IO (io), 151 IO (io)
part C pins: 108 IO (io), 109 IO (io), 110 IO (io), 111 IO (io), 112 IO (io), 113 IO (io), 114 IO (io), 115 IO (io), 117 IO (io), 118 IO (io)
part D pins: 92 IO (io), 93 IO (io), 95 IO (io), 96 IO (io), 97 IO (io), 98 IO (io), 99 IO (io), 100 IO (io), 101 IO (io), 102 IO (io)
part E pins: 168 IO (io), 169 IO (io), 170 IO (io), 171 IO (io), 172 IO (io), 173 IO (io), 175 IO (io), 177 IO (io), 178 IO (io)
part F pins: 130 IO (io), 131 IO (io), 132 IO (io), 133 IO (io), 135 IO (io), 136 IO (io), 137 IO (io), 138 IO (io), 139 IO (io), 140 IO (io)
part G pins: 119 IO (io), 120 IO (io), 121 IO (io), 122 IO (io), 123 IO (io), 124 IO (io), 126 IO (io), 128 IO (io), 129 IO (io)
part H pins: 79 IO (io), 80 IO (io), 81 IO (io), 84 IO (io), 86 IO (io), 87 IO (io), 88 IO (io), 89 IO (io), 90 IO (io), 91 IO (io)
part I pins: 187 IO (io), 188 IO (io), 190 IO (io), 192 IO (io), 193 IO (io), 194 IO (io), 195 IO (io), 196 IO (io), 197 IO (io)
part J pins: 17 IO (io), 18 IO (io), 19 IO (io), 20 IO (io), 21 IO (io), 22 IO (io), 24 IO (io), 25 IO (io), 26 IO (io), 27 IO (io)
part K pins: 28 IO (io), 29 IO (io), 31 IO (io), 33 IO (io), 34 IO (io), 35 IO (io), 36 IO (io), 37 IO (io), 38 IO (io)
part L pins: 66 IO (io), 67 IO (io), 68 IO (io), 69 IO (io), 70 IO (io), 71 IO (io), 73 IO (io), 76 IO (io), 77 IO (io), 78 IO (io)
part M pins: 3 IO (io), 4 IO (io), 198 IO (io), 199 IO (io), 201 IO (io), 202 IO (io), 203 IO (io), 204 IO (io), 205 IO (io), 206 IO (io)
part N pins: 6 IO (io), 7 IO (io), 8 IO (io), 9 IO (io), 10 IO (io), 11 IO (io), 12 IO (io), 13 IO (io), 15 IO (io), 16 IO (io)
part O pins: 39 IO (io), 40 IO (io), 42 IO (io), 43 IO (io), 44 IO (io), 45 IO (io), 46 IO (io), 47 IO (io), 48 IO (io), 49 IO (io)
part P pins: 55 IO (io), 56 IO (io), 57 IO (io), 58 IO (io), 59 IO (io), 60 IO (io), 61 IO (io), 62 IO (io), 64 IO (io), 65 IO (io)
part Q pins: 181 INPUT/OE2/GCLK2 (in), 182 INPUT/GCLRn (in), 183 INPUT/OE1 (in), 184 INPUT/GCLK1 (in)
part R pins: 30 TCK/IO (io), 127 TMS/IO (io), 176 TDI/IO (io), 189 TDO/IO (io)
part S pins: 5 VCCIO (2.5 V OR 3.3 V) (power), 23 VCCIO (2.5 V OR 3.3 V) (power), 41 VCCIO (2.5 V OR 3.3 V) (power), 63 VCCIO (2.5 V OR 3.3 V) (power), 74 VCCINT (3.3 V ONLY) (power), 83 VCCINT (3.3 V ONLY) (power), 85 VCCIO (2.5 V OR 3.3 V) (power), 107 VCCIO (2.5 V OR 3.3 V) (power), 125 VCCIO (2.5 V OR 3.3 V) (power), 143 VCCIO (2.5 V OR 3.3 V) (power), 165 VCCIO (2.5 V OR 3.3 V) (power), 179 VCCINT (3.3 V ONLY) (power), 186 VCCINT (3.3 V ONLY) (power), 191 VCCIO (2.5 V OR 3.3 V) (power)
part T pins: 14 GNDIO (power), 32 GNDIO (power), 50 GNDIO (power), 72 GNDIO (power), 75 GNDINT (power), 82 GNDINT (power), 94 GNDIO (power), 116 GNDIO (power), 134 GNDIO (power), 152 GNDIO (power), 174 GNDIO (power), 180 GNDINT (power), 185 GNDINT (power), 200 GNDIO (power)
part U pins: 1 NC, 2 NC, 51 NC, 52 NC, 53 NC, 54 NC, 103 NC, 104 NC, 105 NC, 106 NC, 155 NC, 156 NC, 157 NC, 158 NC, 207 NC, 208 NC
part A text: BANK A
part B text: BANK B
part C text: BANK C
part D text: BANK D
part E text: BANK E
part F text: BANK F
part G text: BANK G
part H text: BANK H
part I text: BANK I
part J text: BANK J
part K text: BANK K
part L text: BANK L
part M text: BANK M
part N text: BANK N
part O text: BANK O
part P text: BANK P

## EPM7256AEQI208-10
designator U?
MAX 7000AE 3.3V CPLD, 256 Macrocells, 208-Pin PQFP, Speed Grade 10, Industrial Grade; Published: 17-Sep-2003; LatestRevisionDate: 13-Apr-2006; LatestRevisionNote: IPC-7351 Footprint Added.; DatasheetVersion: ver4.5, Sep-2003; PackageVersion: ver14.3, Jul-2006; PackageReference: PQFP208; Publisher: Altium Limited; PackageDescription: 208-Pin Plastic Quad Flat Pack (PQFP208); Code_JEDEC: MS-029-FA-1; ComponentLink1Description: Manufacturer Link; ComponentLink1URL: http://www.altera.com/products/devices/max7k/m7k-index.html; ComponentLink2Description: Datasheet; ComponentLink2URL: http://www.altera.com/literature/ds/m7000a.pdf; ComponentLink3Description: Packaging Specification; ComponentLink3URL: http://www.altera.com/literature/ds/dspkg.pdf
footprint PQFP208_N (Shrink QFP, 208-Leads, Body 28x28mm, Pitch 0.5mm, IPC Medium Density)
footprint PQFP208_L (Shrink QFP, 208-Leads, Body 28x28mm, Pitch 0.5mm, IPC High Density)
footprint PQFP208_M (Shrink QFP, 208-Leads, Body 28x28mm, Pitch 0.5mm, IPC Low Density)
3D model EPM7256AE-PQFP208 (208-Pin Plastic Quad Flat Pack (PQFP208))
signal-integrity model max7kae (MAX 7000AE)
part A pins: 153 IO (io), 154 IO (io), 159 IO (io), 160 IO (io), 161 IO (io), 162 IO (io), 163 IO (io), 164 IO (io), 166 IO (io), 167 IO (io)
part B pins: 141 IO (io), 142 IO (io), 144 IO (io), 145 IO (io), 146 IO (io), 147 IO (io), 148 IO (io), 149 IO (io), 150 IO (io), 151 IO (io)
part C pins: 108 IO (io), 109 IO (io), 110 IO (io), 111 IO (io), 112 IO (io), 113 IO (io), 114 IO (io), 115 IO (io), 117 IO (io), 118 IO (io)
part D pins: 92 IO (io), 93 IO (io), 95 IO (io), 96 IO (io), 97 IO (io), 98 IO (io), 99 IO (io), 100 IO (io), 101 IO (io), 102 IO (io)
part E pins: 168 IO (io), 169 IO (io), 170 IO (io), 171 IO (io), 172 IO (io), 173 IO (io), 175 IO (io), 177 IO (io), 178 IO (io)
part F pins: 130 IO (io), 131 IO (io), 132 IO (io), 133 IO (io), 135 IO (io), 136 IO (io), 137 IO (io), 138 IO (io), 139 IO (io), 140 IO (io)
part G pins: 119 IO (io), 120 IO (io), 121 IO (io), 122 IO (io), 123 IO (io), 124 IO (io), 126 IO (io), 128 IO (io), 129 IO (io)
part H pins: 79 IO (io), 80 IO (io), 81 IO (io), 84 IO (io), 86 IO (io), 87 IO (io), 88 IO (io), 89 IO (io), 90 IO (io), 91 IO (io)
part I pins: 187 IO (io), 188 IO (io), 190 IO (io), 192 IO (io), 193 IO (io), 194 IO (io), 195 IO (io), 196 IO (io), 197 IO (io)
part J pins: 17 IO (io), 18 IO (io), 19 IO (io), 20 IO (io), 21 IO (io), 22 IO (io), 24 IO (io), 25 IO (io), 26 IO (io), 27 IO (io)
part K pins: 28 IO (io), 29 IO (io), 31 IO (io), 33 IO (io), 34 IO (io), 35 IO (io), 36 IO (io), 37 IO (io), 38 IO (io)
part L pins: 66 IO (io), 67 IO (io), 68 IO (io), 69 IO (io), 70 IO (io), 71 IO (io), 73 IO (io), 76 IO (io), 77 IO (io), 78 IO (io)
part M pins: 3 IO (io), 4 IO (io), 198 IO (io), 199 IO (io), 201 IO (io), 202 IO (io), 203 IO (io), 204 IO (io), 205 IO (io), 206 IO (io)
part N pins: 6 IO (io), 7 IO (io), 8 IO (io), 9 IO (io), 10 IO (io), 11 IO (io), 12 IO (io), 13 IO (io), 15 IO (io), 16 IO (io)
part O pins: 39 IO (io), 40 IO (io), 42 IO (io), 43 IO (io), 44 IO (io), 45 IO (io), 46 IO (io), 47 IO (io), 48 IO (io), 49 IO (io)
part P pins: 55 IO (io), 56 IO (io), 57 IO (io), 58 IO (io), 59 IO (io), 60 IO (io), 61 IO (io), 62 IO (io), 64 IO (io), 65 IO (io)
part Q pins: 181 INPUT/OE2/GCLK2 (in), 182 INPUT/GCLRn (in), 183 INPUT/OE1 (in), 184 INPUT/GCLK1 (in)
part R pins: 30 TCK/IO (io), 127 TMS/IO (io), 176 TDI/IO (io), 189 TDO/IO (io)
part S pins: 5 VCCIO (2.5 V OR 3.3 V) (power), 23 VCCIO (2.5 V OR 3.3 V) (power), 41 VCCIO (2.5 V OR 3.3 V) (power), 63 VCCIO (2.5 V OR 3.3 V) (power), 74 VCCINT (3.3 V ONLY) (power), 83 VCCINT (3.3 V ONLY) (power), 85 VCCIO (2.5 V OR 3.3 V) (power), 107 VCCIO (2.5 V OR 3.3 V) (power), 125 VCCIO (2.5 V OR 3.3 V) (power), 143 VCCIO (2.5 V OR 3.3 V) (power), 165 VCCIO (2.5 V OR 3.3 V) (power), 179 VCCINT (3.3 V ONLY) (power), 186 VCCINT (3.3 V ONLY) (power), 191 VCCIO (2.5 V OR 3.3 V) (power)
part T pins: 14 GNDIO (power), 32 GNDIO (power), 50 GNDIO (power), 72 GNDIO (power), 75 GNDINT (power), 82 GNDINT (power), 94 GNDIO (power), 116 GNDIO (power), 134 GNDIO (power), 152 GNDIO (power), 174 GNDIO (power), 180 GNDINT (power), 185 GNDINT (power), 200 GNDIO (power)
part U pins: 1 NC, 2 NC, 51 NC, 52 NC, 53 NC, 54 NC, 103 NC, 104 NC, 105 NC, 106 NC, 155 NC, 156 NC, 157 NC, 158 NC, 207 NC, 208 NC
part A text: BANK A
part B text: BANK B
part C text: BANK C
part D text: BANK D
part E text: BANK E
part F text: BANK F
part G text: BANK G
part H text: BANK H
part I text: BANK I
part J text: BANK J
part K text: BANK K
part L text: BANK L
part M text: BANK M
part N text: BANK N
part O text: BANK O
part P text: BANK P

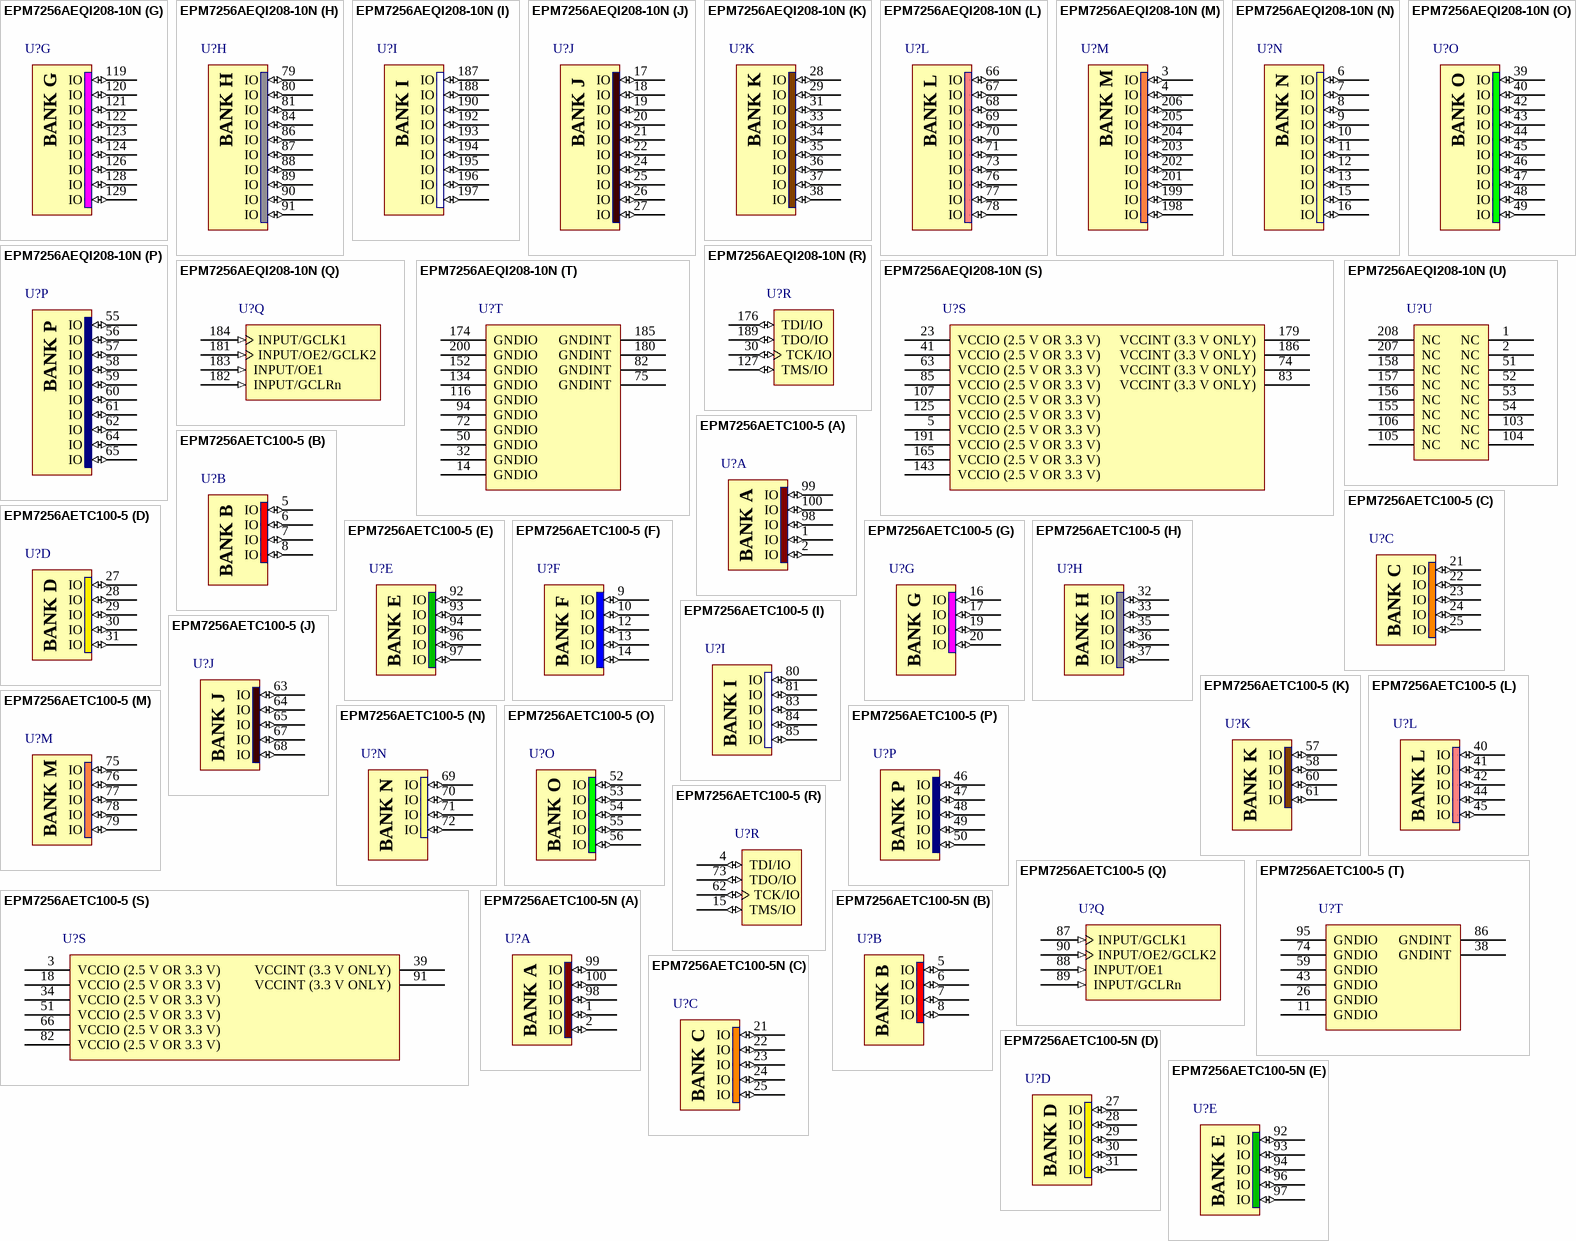
[diagram p66: symbols EPM7256AEQI208-10N to EPM7256AETC100-5N]

## EPM7256AEQI208-10N
designator U?
MAX 7000AE 3.3V CPLD, 256 Macrocells, 208-Pin PQFP, Speed Grade 10, Industrial Grade, Pb-Free; Published: 18-Aug-2005; LatestRevisionDate: 13-Apr-2006; LatestRevisionNote: IPC-7351 Footprint Added.; DatasheetVersion: ver4.5, Sep-2003; PackageVersion: ver14.3, Jul-2006; PackageReference: PQFP208; Publisher: Altium Limited; PackageDescription: 208-Pin Plastic Quad Flat Pack (PQFP208); Code_JEDEC: MS-029-FA-1; ComponentLink1Description: Manufacturer Link; ComponentLink1URL: http://www.altera.com/products/devices/max7k/m7k-index.html; ComponentLink2Description: Datasheet; ComponentLink2URL: http://www.altera.com/literature/ds/m7000a.pdf; ComponentLink3Description: Packaging Specification; ComponentLink3URL: http://www.altera.com/literature/ds/dspkg.pdf
footprint PQFP208_N (Shrink QFP, 208-Leads, Body 28x28mm, Pitch 0.5mm, IPC Medium Density)
footprint PQFP208_L (Shrink QFP, 208-Leads, Body 28x28mm, Pitch 0.5mm, IPC High Density)
footprint PQFP208_M (Shrink QFP, 208-Leads, Body 28x28mm, Pitch 0.5mm, IPC Low Density)
3D model EPM7256AE-PQFP208 (208-Pin Plastic Quad Flat Pack (PQFP208))
signal-integrity model max7kae (MAX 7000AE)
part A pins: 153 IO (io), 154 IO (io), 159 IO (io), 160 IO (io), 161 IO (io), 162 IO (io), 163 IO (io), 164 IO (io), 166 IO (io), 167 IO (io)
part B pins: 141 IO (io), 142 IO (io), 144 IO (io), 145 IO (io), 146 IO (io), 147 IO (io), 148 IO (io), 149 IO (io), 150 IO (io), 151 IO (io)
part C pins: 108 IO (io), 109 IO (io), 110 IO (io), 111 IO (io), 112 IO (io), 113 IO (io), 114 IO (io), 115 IO (io), 117 IO (io), 118 IO (io)
part D pins: 92 IO (io), 93 IO (io), 95 IO (io), 96 IO (io), 97 IO (io), 98 IO (io), 99 IO (io), 100 IO (io), 101 IO (io), 102 IO (io)
part E pins: 168 IO (io), 169 IO (io), 170 IO (io), 171 IO (io), 172 IO (io), 173 IO (io), 175 IO (io), 177 IO (io), 178 IO (io)
part F pins: 130 IO (io), 131 IO (io), 132 IO (io), 133 IO (io), 135 IO (io), 136 IO (io), 137 IO (io), 138 IO (io), 139 IO (io), 140 IO (io)
part G pins: 119 IO (io), 120 IO (io), 121 IO (io), 122 IO (io), 123 IO (io), 124 IO (io), 126 IO (io), 128 IO (io), 129 IO (io)
part H pins: 79 IO (io), 80 IO (io), 81 IO (io), 84 IO (io), 86 IO (io), 87 IO (io), 88 IO (io), 89 IO (io), 90 IO (io), 91 IO (io)
part I pins: 187 IO (io), 188 IO (io), 190 IO (io), 192 IO (io), 193 IO (io), 194 IO (io), 195 IO (io), 196 IO (io), 197 IO (io)
part J pins: 17 IO (io), 18 IO (io), 19 IO (io), 20 IO (io), 21 IO (io), 22 IO (io), 24 IO (io), 25 IO (io), 26 IO (io), 27 IO (io)
part K pins: 28 IO (io), 29 IO (io), 31 IO (io), 33 IO (io), 34 IO (io), 35 IO (io), 36 IO (io), 37 IO (io), 38 IO (io)
part L pins: 66 IO (io), 67 IO (io), 68 IO (io), 69 IO (io), 70 IO (io), 71 IO (io), 73 IO (io), 76 IO (io), 77 IO (io), 78 IO (io)
part M pins: 3 IO (io), 4 IO (io), 198 IO (io), 199 IO (io), 201 IO (io), 202 IO (io), 203 IO (io), 204 IO (io), 205 IO (io), 206 IO (io)
part N pins: 6 IO (io), 7 IO (io), 8 IO (io), 9 IO (io), 10 IO (io), 11 IO (io), 12 IO (io), 13 IO (io), 15 IO (io), 16 IO (io)
part O pins: 39 IO (io), 40 IO (io), 42 IO (io), 43 IO (io), 44 IO (io), 45 IO (io), 46 IO (io), 47 IO (io), 48 IO (io), 49 IO (io)
part P pins: 55 IO (io), 56 IO (io), 57 IO (io), 58 IO (io), 59 IO (io), 60 IO (io), 61 IO (io), 62 IO (io), 64 IO (io), 65 IO (io)
part Q pins: 181 INPUT/OE2/GCLK2 (in), 182 INPUT/GCLRn (in), 183 INPUT/OE1 (in), 184 INPUT/GCLK1 (in)
part R pins: 30 TCK/IO (io), 127 TMS/IO (io), 176 TDI/IO (io), 189 TDO/IO (io)
part S pins: 5 VCCIO (2.5 V OR 3.3 V) (power), 23 VCCIO (2.5 V OR 3.3 V) (power), 41 VCCIO (2.5 V OR 3.3 V) (power), 63 VCCIO (2.5 V OR 3.3 V) (power), 74 VCCINT (3.3 V ONLY) (power), 83 VCCINT (3.3 V ONLY) (power), 85 VCCIO (2.5 V OR 3.3 V) (power), 107 VCCIO (2.5 V OR 3.3 V) (power), 125 VCCIO (2.5 V OR 3.3 V) (power), 143 VCCIO (2.5 V OR 3.3 V) (power), 165 VCCIO (2.5 V OR 3.3 V) (power), 179 VCCINT (3.3 V ONLY) (power), 186 VCCINT (3.3 V ONLY) (power), 191 VCCIO (2.5 V OR 3.3 V) (power)
part T pins: 14 GNDIO (power), 32 GNDIO (power), 50 GNDIO (power), 72 GNDIO (power), 75 GNDINT (power), 82 GNDINT (power), 94 GNDIO (power), 116 GNDIO (power), 134 GNDIO (power), 152 GNDIO (power), 174 GNDIO (power), 180 GNDINT (power), 185 GNDINT (power), 200 GNDIO (power)
part U pins: 1 NC, 2 NC, 51 NC, 52 NC, 53 NC, 54 NC, 103 NC, 104 NC, 105 NC, 106 NC, 155 NC, 156 NC, 157 NC, 158 NC, 207 NC, 208 NC
part A text: BANK A
part B text: BANK B
part C text: BANK C
part D text: BANK D
part E text: BANK E
part F text: BANK F
part G text: BANK G
part H text: BANK H
part I text: BANK I
part J text: BANK J
part K text: BANK K
part L text: BANK L
part M text: BANK M
part N text: BANK N
part O text: BANK O
part P text: BANK P

## EPM7256AETC100-5
designator U?
MAX 7000AE 3.3V CPLD, 256 Macrocells, 100-Pin TQFP, Speed Grade 5, Commercial Grade; Published: 23-Sep-2002; LatestRevisionDate: 13-Apr-2006; LatestRevisionNote: IPC-7351 Footprint Added.; DatasheetVersion: ver4.5, Sep-2003; PackageVersion: ver14.3, Jul-2006; PackageReference: TQFP100; Publisher: Altium Limited; PackageDescription: 100-Pin Plastic Thin Quad Flat Pack (TQFP100); Code_JEDEC: MS-026-AED; ComponentLink1Description: Manufacturer Link; ComponentLink1URL: http://www.altera.com/products/devices/max7k/m7k-index.html; ComponentLink2Description: Datasheet; ComponentLink2URL: http://www.altera.com/literature/ds/m7000a.pdf; ComponentLink3Description: Packaging Specification; ComponentLink3URL: http://www.altera.com/literature/ds/dspkg.pdf
footprint TQFP100_N (Thin QFP, 100-Leads, Body 14x14mm, Pitch 0.5mm, IPC Medium Density)
footprint TQFP100_L (Thin QFP, 100-Leads, Body 14x14mm, Pitch 0.5mm, IPC High Density)
footprint TQFP100_M (Thin QFP, 100-Leads, Body 14x14mm, Pitch 0.5mm, IPC Low Density)
3D model EPM7256AE-TQFP100 (100-Pin Plastic Thin Quad Flat Pack (TQFP100))
signal-integrity model max7kae (MAX 7000AE)
part A pins: 1 IO (io), 2 IO (io), 98 IO (io), 99 IO (io), 100 IO (io)
part B pins: 5 IO (io), 6 IO (io), 7 IO (io), 8 IO (io)
part C pins: 21 IO (io), 22 IO (io), 23 IO (io), 24 IO (io), 25 IO (io)
part D pins: 27 IO (io), 28 IO (io), 29 IO (io), 30 IO (io), 31 IO (io)
part E pins: 92 IO (io), 93 IO (io), 94 IO (io), 96 IO (io), 97 IO (io)
part F pins: 9 IO (io), 10 IO (io), 12 IO (io), 13 IO (io), 14 IO (io)
part G pins: 16 IO (io), 17 IO (io), 19 IO (io), 20 IO (io)
part H pins: 32 IO (io), 33 IO (io), 35 IO (io), 36 IO (io), 37 IO (io)
part I pins: 80 IO (io), 81 IO (io), 83 IO (io), 84 IO (io), 85 IO (io)
part J pins: 63 IO (io), 64 IO (io), 65 IO (io), 67 IO (io), 68 IO (io)
part K pins: 57 IO (io), 58 IO (io), 60 IO (io), 61 IO (io)
part L pins: 40 IO (io), 41 IO (io), 42 IO (io), 44 IO (io), 45 IO (io)
part M pins: 75 IO (io), 76 IO (io), 77 IO (io), 78 IO (io), 79 IO (io)
part N pins: 69 IO (io), 70 IO (io), 71 IO (io), 72 IO (io)
part O pins: 52 IO (io), 53 IO (io), 54 IO (io), 55 IO (io), 56 IO (io)
part P pins: 46 IO (io), 47 IO (io), 48 IO (io), 49 IO (io), 50 IO (io)
part Q pins: 87 INPUT/GCLK1 (in), 88 INPUT/OE1 (in), 89 INPUT/GCLRn (in), 90 INPUT/OE2/GCLK2 (in)
part R pins: 4 TDI/IO (io), 15 TMS/IO (io), 62 TCK/IO (io), 73 TDO/IO (io)
part S pins: 3 VCCIO (2.5 V OR 3.3 V) (power), 18 VCCIO (2.5 V OR 3.3 V) (power), 34 VCCIO (2.5 V OR 3.3 V) (power), 39 VCCINT (3.3 V ONLY) (power), 51 VCCIO (2.5 V OR 3.3 V) (power), 66 VCCIO (2.5 V OR 3.3 V) (power), 82 VCCIO (2.5 V OR 3.3 V) (power), 91 VCCINT (3.3 V ONLY) (power)
part T pins: 11 GNDIO (power), 26 GNDIO (power), 38 GNDINT (power), 43 GNDIO (power), 59 GNDIO (power), 74 GNDIO (power), 86 GNDINT (power), 95 GNDIO (power)
part A text: BANK A
part B text: BANK B
part C text: BANK C
part D text: BANK D
part E text: BANK E
part F text: BANK F
part G text: BANK G
part H text: BANK H
part I text: BANK I
part J text: BANK J
part K text: BANK K
part L text: BANK L
part M text: BANK M
part N text: BANK N
part O text: BANK O
part P text: BANK P

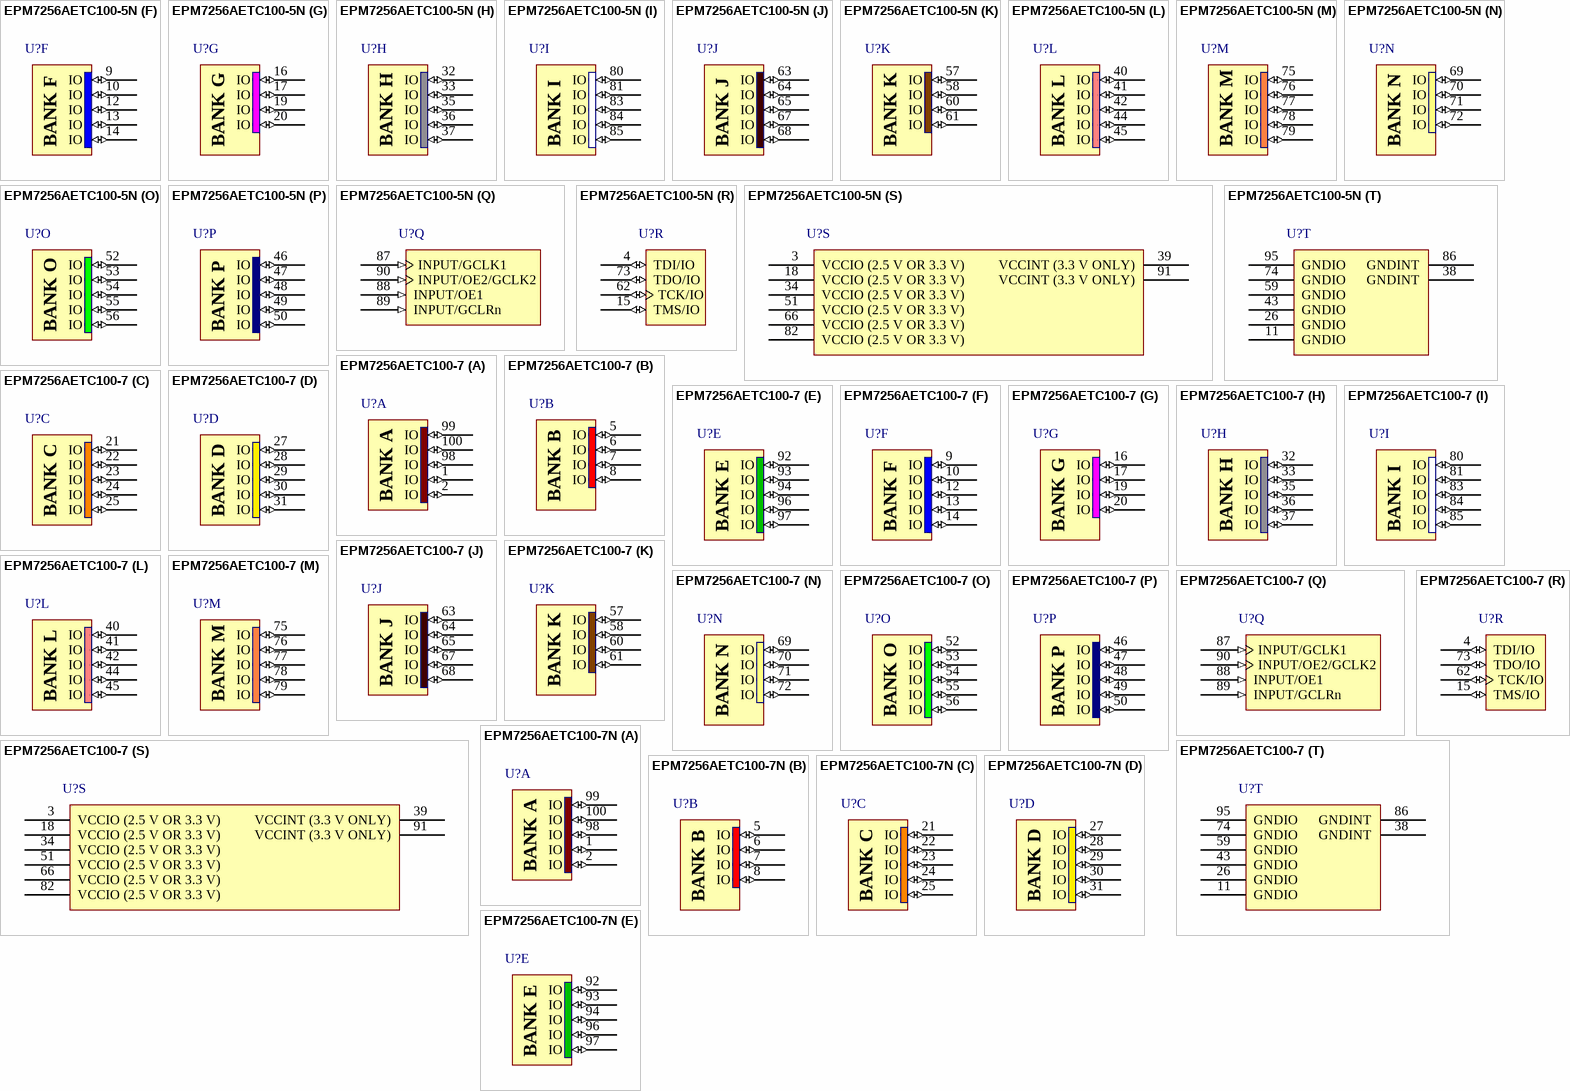
[diagram p67: symbols EPM7256AETC100-5N to EPM7256AETC100-7N]

## EPM7256AETC100-5N
designator U?
MAX 7000AE 3.3V CPLD, 256 Macrocells, 100-Pin TQFP, Speed Grade 5, Commercial Grade, Pb-Free; Published: 18-Aug-2005; LatestRevisionDate: 13-Apr-2006; LatestRevisionNote: IPC-7351 Footprint Added.; DatasheetVersion: ver4.5, Sep-2003; PackageVersion: ver14.3, Jul-2006; PackageReference: TQFP100; Publisher: Altium Limited; PackageDescription: 100-Pin Plastic Thin Quad Flat Pack (TQFP100); Code_JEDEC: MS-026-AED; ComponentLink1Description: Manufacturer Link; ComponentLink1URL: http://www.altera.com/products/devices/max7k/m7k-index.html; ComponentLink2Description: Datasheet; ComponentLink2URL: http://www.altera.com/literature/ds/m7000a.pdf; ComponentLink3Description: Packaging Specification; ComponentLink3URL: http://www.altera.com/literature/ds/dspkg.pdf
footprint TQFP100_N (Thin QFP, 100-Leads, Body 14x14mm, Pitch 0.5mm, IPC Medium Density)
footprint TQFP100_L (Thin QFP, 100-Leads, Body 14x14mm, Pitch 0.5mm, IPC High Density)
footprint TQFP100_M (Thin QFP, 100-Leads, Body 14x14mm, Pitch 0.5mm, IPC Low Density)
3D model EPM7256AE-TQFP100 (100-Pin Plastic Thin Quad Flat Pack (TQFP100))
signal-integrity model max7kae (MAX 7000AE)
part A pins: 1 IO (io), 2 IO (io), 98 IO (io), 99 IO (io), 100 IO (io)
part B pins: 5 IO (io), 6 IO (io), 7 IO (io), 8 IO (io)
part C pins: 21 IO (io), 22 IO (io), 23 IO (io), 24 IO (io), 25 IO (io)
part D pins: 27 IO (io), 28 IO (io), 29 IO (io), 30 IO (io), 31 IO (io)
part E pins: 92 IO (io), 93 IO (io), 94 IO (io), 96 IO (io), 97 IO (io)
part F pins: 9 IO (io), 10 IO (io), 12 IO (io), 13 IO (io), 14 IO (io)
part G pins: 16 IO (io), 17 IO (io), 19 IO (io), 20 IO (io)
part H pins: 32 IO (io), 33 IO (io), 35 IO (io), 36 IO (io), 37 IO (io)
part I pins: 80 IO (io), 81 IO (io), 83 IO (io), 84 IO (io), 85 IO (io)
part J pins: 63 IO (io), 64 IO (io), 65 IO (io), 67 IO (io), 68 IO (io)
part K pins: 57 IO (io), 58 IO (io), 60 IO (io), 61 IO (io)
part L pins: 40 IO (io), 41 IO (io), 42 IO (io), 44 IO (io), 45 IO (io)
part M pins: 75 IO (io), 76 IO (io), 77 IO (io), 78 IO (io), 79 IO (io)
part N pins: 69 IO (io), 70 IO (io), 71 IO (io), 72 IO (io)
part O pins: 52 IO (io), 53 IO (io), 54 IO (io), 55 IO (io), 56 IO (io)
part P pins: 46 IO (io), 47 IO (io), 48 IO (io), 49 IO (io), 50 IO (io)
part Q pins: 87 INPUT/GCLK1 (in), 88 INPUT/OE1 (in), 89 INPUT/GCLRn (in), 90 INPUT/OE2/GCLK2 (in)
part R pins: 4 TDI/IO (io), 15 TMS/IO (io), 62 TCK/IO (io), 73 TDO/IO (io)
part S pins: 3 VCCIO (2.5 V OR 3.3 V) (power), 18 VCCIO (2.5 V OR 3.3 V) (power), 34 VCCIO (2.5 V OR 3.3 V) (power), 39 VCCINT (3.3 V ONLY) (power), 51 VCCIO (2.5 V OR 3.3 V) (power), 66 VCCIO (2.5 V OR 3.3 V) (power), 82 VCCIO (2.5 V OR 3.3 V) (power), 91 VCCINT (3.3 V ONLY) (power)
part T pins: 11 GNDIO (power), 26 GNDIO (power), 38 GNDINT (power), 43 GNDIO (power), 59 GNDIO (power), 74 GNDIO (power), 86 GNDINT (power), 95 GNDIO (power)
part A text: BANK A
part B text: BANK B
part C text: BANK C
part D text: BANK D
part E text: BANK E
part F text: BANK F
part G text: BANK G
part H text: BANK H
part I text: BANK I
part J text: BANK J
part K text: BANK K
part L text: BANK L
part M text: BANK M
part N text: BANK N
part O text: BANK O
part P text: BANK P

## EPM7256AETC100-7
designator U?
MAX 7000AE 3.3V CPLD, 256 Macrocells, 100-Pin TQFP, Speed Grade 7, Commercial Grade; Published: 23-Sep-2002; LatestRevisionDate: 13-Apr-2006; LatestRevisionNote: IPC-7351 Footprint Added.; DatasheetVersion: ver4.5, Sep-2003; PackageVersion: ver14.3, Jul-2006; PackageReference: TQFP100; Publisher: Altium Limited; PackageDescription: 100-Pin Plastic Thin Quad Flat Pack (TQFP100); Code_JEDEC: MS-026-AED; ComponentLink1Description: Manufacturer Link; ComponentLink1URL: http://www.altera.com/products/devices/max7k/m7k-index.html; ComponentLink2Description: Datasheet; ComponentLink2URL: http://www.altera.com/literature/ds/m7000a.pdf; ComponentLink3Description: Packaging Specification; ComponentLink3URL: http://www.altera.com/literature/ds/dspkg.pdf
footprint TQFP100_N (Thin QFP, 100-Leads, Body 14x14mm, Pitch 0.5mm, IPC Medium Density)
footprint TQFP100_L (Thin QFP, 100-Leads, Body 14x14mm, Pitch 0.5mm, IPC High Density)
footprint TQFP100_M (Thin QFP, 100-Leads, Body 14x14mm, Pitch 0.5mm, IPC Low Density)
3D model EPM7256AE-TQFP100 (100-Pin Plastic Thin Quad Flat Pack (TQFP100))
signal-integrity model max7kae (MAX 7000AE)
part A pins: 1 IO (io), 2 IO (io), 98 IO (io), 99 IO (io), 100 IO (io)
part B pins: 5 IO (io), 6 IO (io), 7 IO (io), 8 IO (io)
part C pins: 21 IO (io), 22 IO (io), 23 IO (io), 24 IO (io), 25 IO (io)
part D pins: 27 IO (io), 28 IO (io), 29 IO (io), 30 IO (io), 31 IO (io)
part E pins: 92 IO (io), 93 IO (io), 94 IO (io), 96 IO (io), 97 IO (io)
part F pins: 9 IO (io), 10 IO (io), 12 IO (io), 13 IO (io), 14 IO (io)
part G pins: 16 IO (io), 17 IO (io), 19 IO (io), 20 IO (io)
part H pins: 32 IO (io), 33 IO (io), 35 IO (io), 36 IO (io), 37 IO (io)
part I pins: 80 IO (io), 81 IO (io), 83 IO (io), 84 IO (io), 85 IO (io)
part J pins: 63 IO (io), 64 IO (io), 65 IO (io), 67 IO (io), 68 IO (io)
part K pins: 57 IO (io), 58 IO (io), 60 IO (io), 61 IO (io)
part L pins: 40 IO (io), 41 IO (io), 42 IO (io), 44 IO (io), 45 IO (io)
part M pins: 75 IO (io), 76 IO (io), 77 IO (io), 78 IO (io), 79 IO (io)
part N pins: 69 IO (io), 70 IO (io), 71 IO (io), 72 IO (io)
part O pins: 52 IO (io), 53 IO (io), 54 IO (io), 55 IO (io), 56 IO (io)
part P pins: 46 IO (io), 47 IO (io), 48 IO (io), 49 IO (io), 50 IO (io)
part Q pins: 87 INPUT/GCLK1 (in), 88 INPUT/OE1 (in), 89 INPUT/GCLRn (in), 90 INPUT/OE2/GCLK2 (in)
part R pins: 4 TDI/IO (io), 15 TMS/IO (io), 62 TCK/IO (io), 73 TDO/IO (io)
part S pins: 3 VCCIO (2.5 V OR 3.3 V) (power), 18 VCCIO (2.5 V OR 3.3 V) (power), 34 VCCIO (2.5 V OR 3.3 V) (power), 39 VCCINT (3.3 V ONLY) (power), 51 VCCIO (2.5 V OR 3.3 V) (power), 66 VCCIO (2.5 V OR 3.3 V) (power), 82 VCCIO (2.5 V OR 3.3 V) (power), 91 VCCINT (3.3 V ONLY) (power)
part T pins: 11 GNDIO (power), 26 GNDIO (power), 38 GNDINT (power), 43 GNDIO (power), 59 GNDIO (power), 74 GNDIO (power), 86 GNDINT (power), 95 GNDIO (power)
part A text: BANK A
part B text: BANK B
part C text: BANK C
part D text: BANK D
part E text: BANK E
part F text: BANK F
part G text: BANK G
part H text: BANK H
part I text: BANK I
part J text: BANK J
part K text: BANK K
part L text: BANK L
part M text: BANK M
part N text: BANK N
part O text: BANK O
part P text: BANK P

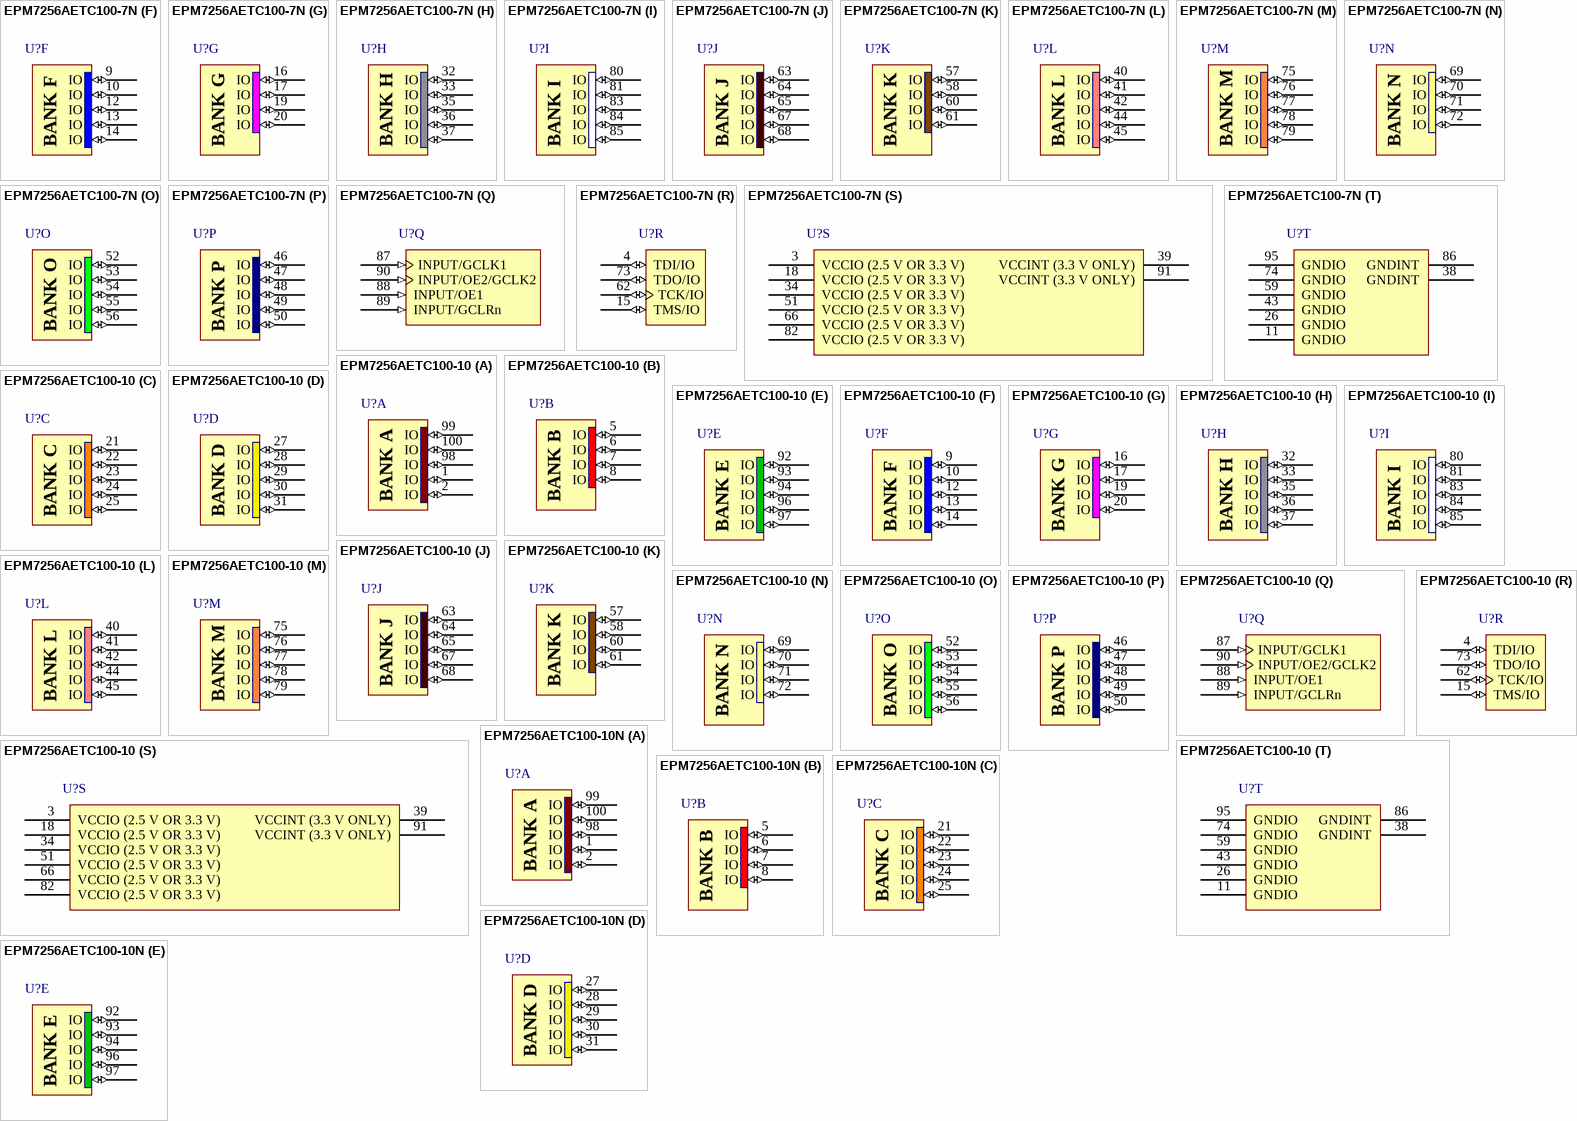
[diagram p68: symbols EPM7256AETC100-7N to EPM7256AETC100-10N]

## EPM7256AETC100-7N
designator U?
MAX 7000AE 3.3V CPLD, 256 Macrocells, 100-Pin TQFP, Speed Grade 7, Commercial Grade, Pb-Free; Published: 4-Mar-2005; LatestRevisionDate: 13-Apr-2006; LatestRevisionNote: IPC-7351 Footprint Added.; DatasheetVersion: ver4.5, Sep-2003; PackageVersion: ver14.3, Jul-2006; PackageReference: TQFP100; Publisher: Altium Limited; PackageDescription: 100-Pin Plastic Thin Quad Flat Pack (TQFP100); Code_JEDEC: MS-026-AED; ComponentLink1Description: Manufacturer Link; ComponentLink1URL: http://www.altera.com/products/devices/max7k/m7k-index.html; ComponentLink2Description: Datasheet; ComponentLink2URL: http://www.altera.com/literature/ds/m7000a.pdf; ComponentLink3Description: Packaging Specification; ComponentLink3URL: http://www.altera.com/literature/ds/dspkg.pdf
footprint TQFP100_N (Thin QFP, 100-Leads, Body 14x14mm, Pitch 0.5mm, IPC Medium Density)
footprint TQFP100_L (Thin QFP, 100-Leads, Body 14x14mm, Pitch 0.5mm, IPC High Density)
footprint TQFP100_M (Thin QFP, 100-Leads, Body 14x14mm, Pitch 0.5mm, IPC Low Density)
3D model EPM7256AE-TQFP100 (100-Pin Plastic Thin Quad Flat Pack (TQFP100))
signal-integrity model max7kae (MAX 7000AE)
part A pins: 1 IO (io), 2 IO (io), 98 IO (io), 99 IO (io), 100 IO (io)
part B pins: 5 IO (io), 6 IO (io), 7 IO (io), 8 IO (io)
part C pins: 21 IO (io), 22 IO (io), 23 IO (io), 24 IO (io), 25 IO (io)
part D pins: 27 IO (io), 28 IO (io), 29 IO (io), 30 IO (io), 31 IO (io)
part E pins: 92 IO (io), 93 IO (io), 94 IO (io), 96 IO (io), 97 IO (io)
part F pins: 9 IO (io), 10 IO (io), 12 IO (io), 13 IO (io), 14 IO (io)
part G pins: 16 IO (io), 17 IO (io), 19 IO (io), 20 IO (io)
part H pins: 32 IO (io), 33 IO (io), 35 IO (io), 36 IO (io), 37 IO (io)
part I pins: 80 IO (io), 81 IO (io), 83 IO (io), 84 IO (io), 85 IO (io)
part J pins: 63 IO (io), 64 IO (io), 65 IO (io), 67 IO (io), 68 IO (io)
part K pins: 57 IO (io), 58 IO (io), 60 IO (io), 61 IO (io)
part L pins: 40 IO (io), 41 IO (io), 42 IO (io), 44 IO (io), 45 IO (io)
part M pins: 75 IO (io), 76 IO (io), 77 IO (io), 78 IO (io), 79 IO (io)
part N pins: 69 IO (io), 70 IO (io), 71 IO (io), 72 IO (io)
part O pins: 52 IO (io), 53 IO (io), 54 IO (io), 55 IO (io), 56 IO (io)
part P pins: 46 IO (io), 47 IO (io), 48 IO (io), 49 IO (io), 50 IO (io)
part Q pins: 87 INPUT/GCLK1 (in), 88 INPUT/OE1 (in), 89 INPUT/GCLRn (in), 90 INPUT/OE2/GCLK2 (in)
part R pins: 4 TDI/IO (io), 15 TMS/IO (io), 62 TCK/IO (io), 73 TDO/IO (io)
part S pins: 3 VCCIO (2.5 V OR 3.3 V) (power), 18 VCCIO (2.5 V OR 3.3 V) (power), 34 VCCIO (2.5 V OR 3.3 V) (power), 39 VCCINT (3.3 V ONLY) (power), 51 VCCIO (2.5 V OR 3.3 V) (power), 66 VCCIO (2.5 V OR 3.3 V) (power), 82 VCCIO (2.5 V OR 3.3 V) (power), 91 VCCINT (3.3 V ONLY) (power)
part T pins: 11 GNDIO (power), 26 GNDIO (power), 38 GNDINT (power), 43 GNDIO (power), 59 GNDIO (power), 74 GNDIO (power), 86 GNDINT (power), 95 GNDIO (power)
part A text: BANK A
part B text: BANK B
part C text: BANK C
part D text: BANK D
part E text: BANK E
part F text: BANK F
part G text: BANK G
part H text: BANK H
part I text: BANK I
part J text: BANK J
part K text: BANK K
part L text: BANK L
part M text: BANK M
part N text: BANK N
part O text: BANK O
part P text: BANK P

## EPM7256AETC100-10
designator U?
MAX 7000AE 3.3V CPLD, 256 Macrocells, 100-Pin TQFP, Speed Grade 10, Commercial Grade; Published: 23-Sep-2002; LatestRevisionDate: 13-Apr-2006; LatestRevisionNote: IPC-7351 Footprint Added.; DatasheetVersion: ver4.5, Sep-2003; PackageVersion: ver14.3, Jul-2006; PackageReference: TQFP100; Publisher: Altium Limited; PackageDescription: 100-Pin Plastic Thin Quad Flat Pack (TQFP100); Code_JEDEC: MS-026-AED; ComponentLink1Description: Manufacturer Link; ComponentLink1URL: http://www.altera.com/products/devices/max7k/m7k-index.html; ComponentLink2Description: Datasheet; ComponentLink2URL: http://www.altera.com/literature/ds/m7000a.pdf; ComponentLink3Description: Packaging Specification; ComponentLink3URL: http://www.altera.com/literature/ds/dspkg.pdf
footprint TQFP100_N (Thin QFP, 100-Leads, Body 14x14mm, Pitch 0.5mm, IPC Medium Density)
footprint TQFP100_L (Thin QFP, 100-Leads, Body 14x14mm, Pitch 0.5mm, IPC High Density)
footprint TQFP100_M (Thin QFP, 100-Leads, Body 14x14mm, Pitch 0.5mm, IPC Low Density)
3D model EPM7256AE-TQFP100 (100-Pin Plastic Thin Quad Flat Pack (TQFP100))
signal-integrity model max7kae (MAX 7000AE)
part A pins: 1 IO (io), 2 IO (io), 98 IO (io), 99 IO (io), 100 IO (io)
part B pins: 5 IO (io), 6 IO (io), 7 IO (io), 8 IO (io)
part C pins: 21 IO (io), 22 IO (io), 23 IO (io), 24 IO (io), 25 IO (io)
part D pins: 27 IO (io), 28 IO (io), 29 IO (io), 30 IO (io), 31 IO (io)
part E pins: 92 IO (io), 93 IO (io), 94 IO (io), 96 IO (io), 97 IO (io)
part F pins: 9 IO (io), 10 IO (io), 12 IO (io), 13 IO (io), 14 IO (io)
part G pins: 16 IO (io), 17 IO (io), 19 IO (io), 20 IO (io)
part H pins: 32 IO (io), 33 IO (io), 35 IO (io), 36 IO (io), 37 IO (io)
part I pins: 80 IO (io), 81 IO (io), 83 IO (io), 84 IO (io), 85 IO (io)
part J pins: 63 IO (io), 64 IO (io), 65 IO (io), 67 IO (io), 68 IO (io)
part K pins: 57 IO (io), 58 IO (io), 60 IO (io), 61 IO (io)
part L pins: 40 IO (io), 41 IO (io), 42 IO (io), 44 IO (io), 45 IO (io)
part M pins: 75 IO (io), 76 IO (io), 77 IO (io), 78 IO (io), 79 IO (io)
part N pins: 69 IO (io), 70 IO (io), 71 IO (io), 72 IO (io)
part O pins: 52 IO (io), 53 IO (io), 54 IO (io), 55 IO (io), 56 IO (io)
part P pins: 46 IO (io), 47 IO (io), 48 IO (io), 49 IO (io), 50 IO (io)
part Q pins: 87 INPUT/GCLK1 (in), 88 INPUT/OE1 (in), 89 INPUT/GCLRn (in), 90 INPUT/OE2/GCLK2 (in)
part R pins: 4 TDI/IO (io), 15 TMS/IO (io), 62 TCK/IO (io), 73 TDO/IO (io)
part S pins: 3 VCCIO (2.5 V OR 3.3 V) (power), 18 VCCIO (2.5 V OR 3.3 V) (power), 34 VCCIO (2.5 V OR 3.3 V) (power), 39 VCCINT (3.3 V ONLY) (power), 51 VCCIO (2.5 V OR 3.3 V) (power), 66 VCCIO (2.5 V OR 3.3 V) (power), 82 VCCIO (2.5 V OR 3.3 V) (power), 91 VCCINT (3.3 V ONLY) (power)
part T pins: 11 GNDIO (power), 26 GNDIO (power), 38 GNDINT (power), 43 GNDIO (power), 59 GNDIO (power), 74 GNDIO (power), 86 GNDINT (power), 95 GNDIO (power)
part A text: BANK A
part B text: BANK B
part C text: BANK C
part D text: BANK D
part E text: BANK E
part F text: BANK F
part G text: BANK G
part H text: BANK H
part I text: BANK I
part J text: BANK J
part K text: BANK K
part L text: BANK L
part M text: BANK M
part N text: BANK N
part O text: BANK O
part P text: BANK P